# Altium schematic symbol library BOT1_2025.SchLib: 300 symbols (part 2 of 3)
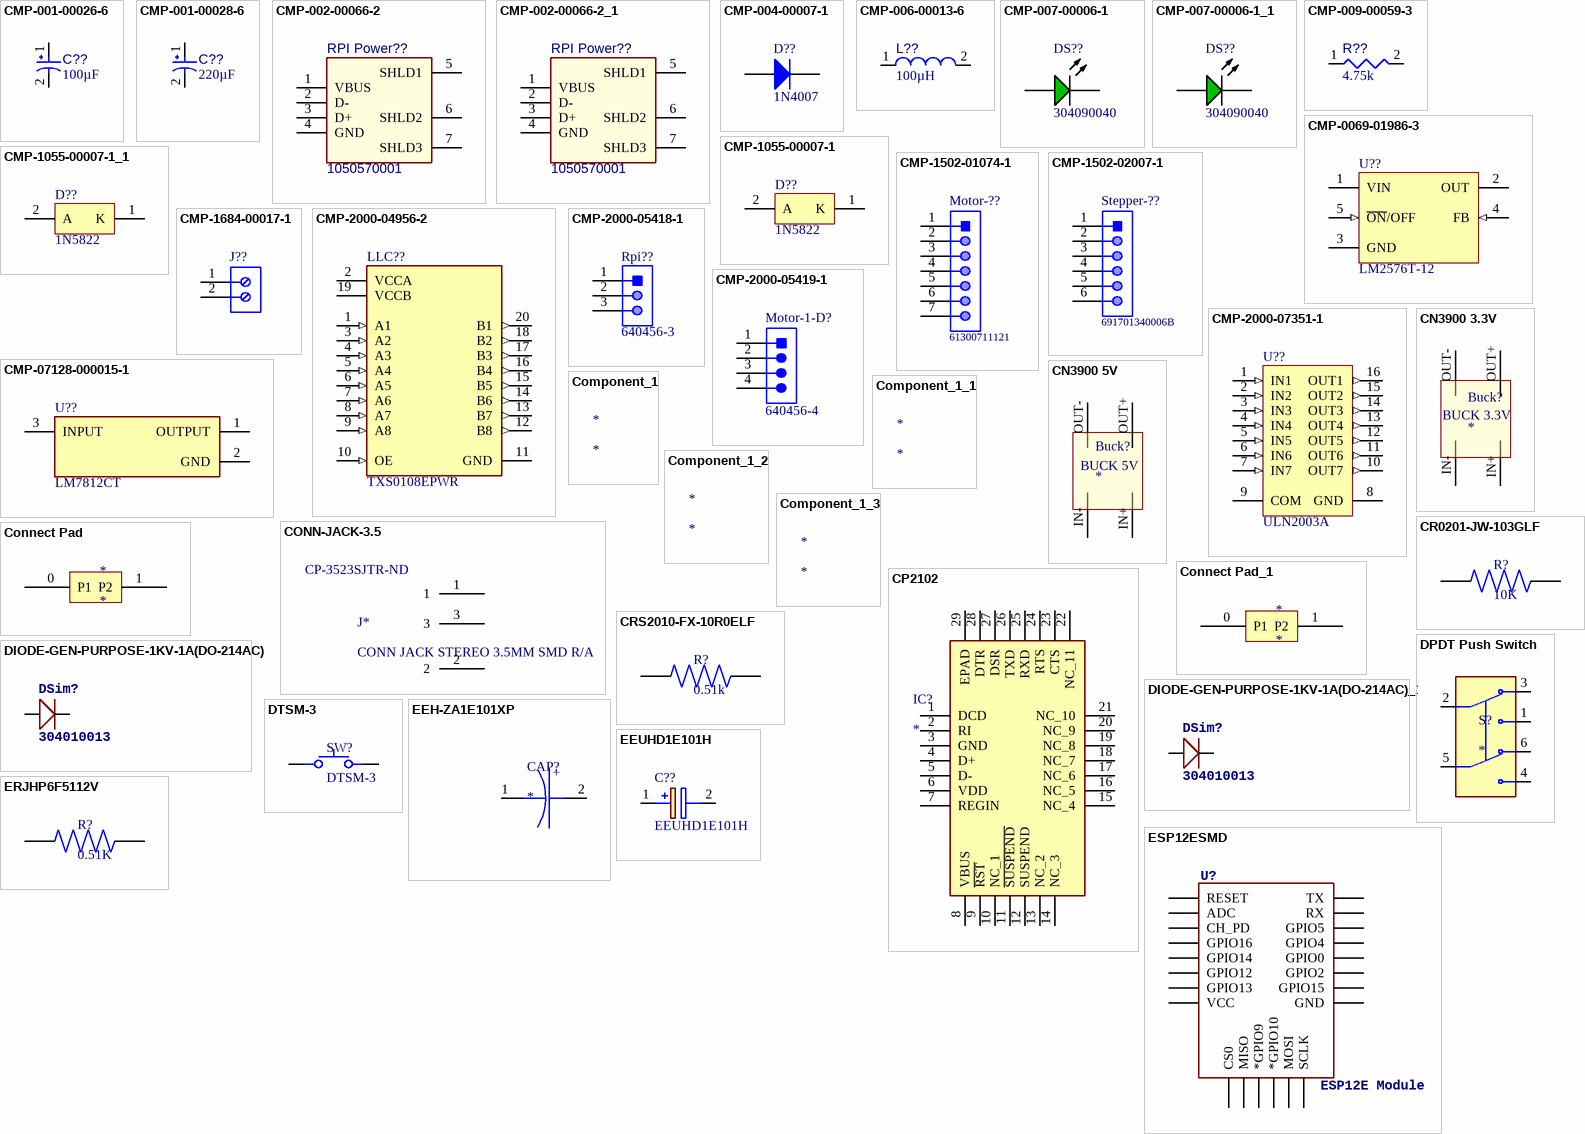
[diagram p9: symbols CMP-001-00026-6 to ESP12ESMD]

## CMP-1055-00007-1_1
designator D??, comment 1N5822
Rectifier, 2-Pin Axial_Lead, Bulk Bag; Manufacturer: On Semiconductor; Manufacturer: ON Semiconductor / Fairchild; IFSM Max (A): 80; Note1: 0; Configuration: Single; PartNumber: 1N5822; ComponentLink2Description: Datasheet; RoHS: FALSE; PackageDescription: 2-Pin, Axial Lead, Diameter 5.05 mm; Mounting Technology: Through Hole; PackageReference: AXIAL_LEAD-2-267-05; ComponentLink1URL: http://www.onsemi.com/; PackageVersion: Rev. G, 06/2000; ComponentLink2URL: http://www.onsemi.cn/pub_link/Collateral/1N5820-D.PDF; ComponentLink3Description: Package Specification; ComponentLink1Description: Manufacturer URL; ComponentLink3URL: http://www.onsemi.com/pub_link/Collateral/267-05.PDF; Packing: Bulk Bag; DatasheetVersion: Rev. 10; Manufacturer Part Number: 1N5822
footprint FAIR-DO-41-2 (THD, 2-Leads, Body 5.2x2.72mm, Pin Spacing 7.8mm)
pins: 1 K, 2 A

## CMP-1502-01074-1
designator Motor-??, comment 61300711121
THT Vertical Pin Header WR-PHD, Pitch 2.54 mm, Single Row, 7 pins; Manufacturer: Wurth Elektronik; Manufacturer: Wurth Electronics; Pin Number: 7; Gender: Male; Working Voltage: 250VAC; Contact Resistance: 20mOhm; Rated Current: 3A; Pitch: 2.54mm; Withstanding Voltage: 500VAC; Row Number: Single; Packaging: Bag; Orientation: Vertical; Manufacturer URL: http://www.we-online.de; Datasheet URL: https://katalog.we-online.de/em/datasheet/6130xx11121.pdf; Part Number: 61300711121; Publisher: WurthElektronik; Operating Temperature: -40to105degC; Mounting Technology: THT; Package Reference: 61300711121; Manufacturer Part Number: 61300711121
footprint 61300711121 (Pin Header, pitch 2.54 mm, THT, Vertical, single row, 7p)
pins: 1, 2, 3, 4, 5, 6, 7

## CMP-1502-02007-1
designator Stepper-??, comment 691701340006B
Serie 7013 B - 3.81mm Horizontal PCB Header THR Type WR-TBL, 6 pin; Manufacturer: Wurth Elektronik; Manufacturer: Wurth Electronics; Pin Number: 6; Gender: Male; Mounting Technology: SMT; Pitch: 3.81mm; Manufacturer URL: http://www.we-online.de; Operating Temperature: -40to105degC; Part Number: 691701340006B; Packaging: TapeandReel; Publisher: WurthElektronik; Datasheet URL: http://katalog.we-online.de/em/datasheet/6917013400xxB.pdf; Package Reference: 691701340006B; Manufacturer Part Number: 691701340006B
footprint 691701340006B (Horizontal PCB Header THR Type, pitch 3.81mm, 06p)
pins: 1, 2, 3, 4, 5, 6

## CMP-1684-00017-1
designator J??
Female Header, Pitch 5 mm, 1 x 2 Position, Height 10 mm, Tail Length 3.5 mm, Rohs, Bulk; Manufacturer: TE Connectivity; Manufacturer Part Number: 282836-2; Wire Gauge: 16-30AWG; Product Training Modules: Wire-to-BoardEurostyleTerminalBlocks; Clamp Material - Plating: Brass-NickelPlated; Voltage: 300V; Mating Orientation: HorizontalwithBoard; Current: 13.5A; Pitch: 0.197"(5.00mm); Screw Thread: M3; 3D Model: 282836-2.pdf; Other Names: 5ULV-02B / A98076; Dynamic Catalog: BuchananSeries; Number of Levels: 1; Torque - Screw: 0.68Nm(6Lb-In); Featured Product: EurostyleTerminalBlockConnectors; Positions Per Level: 2; Wire Termination: Screw-RisingCageClamp; Datasheet URL: http://www.te.com.cn/commerce/DocumentDelivery/DDEController?Action=showdoc&DocId=Catalog+Section%7F1308389_EUROSTYLE_TERMINAL_BLOCKS%7F0607%7Fpdf%7FEnglish%7FENG_CS_1308389_EUROSTYLE_TERMINAL_BLOCKS_0607.pdf%7F282836-2; Color: Green; Family: TerminalBlocks-WiretoBoard; RoHS Information: 282836-2StatementofCompliance; Standard Package: 300; Contact Material - Plating: Brass-TinPlated; Manufacturer URL: http://www.te.com; Housing Material: Polyamide(PA66),Nylon6/6; Features: Interlocking(Side); Package Description: Female Header, Pitch 5 mm, 1 x 2 Position, Height 10 mm, Tail Length 3.5 mm; Mounting Type: ThroughHole; Package Reference: THD; Packaging: Bulk; Series: Buchanan; Category: Connectors,Interconnects; Screw Material - Plating: Brass-NickelPlated
footprint TECO-282836-2_V (Female Header, Pitch 5mm, 1 x 2 Position, Height 10mm)
pins: 1, 2

## CMP-2000-04956-2
designator LLC??, comment TXS0108EPWR
IC TRNSLTR BIDIRECTIONAL 20TSSOP; Manufacturer: Texas Instruments; Number of Inputs: 8; Supply Current: 8uA; Low Level Output Current: 50mA; Min Supply Voltage: 1.2V; Quiescent Current: 3uA; Output Type: Voltage; Propagation Delay: 4.8ns; Max Supply Voltage: 5.5V; Output Current: 620uA; Turn-On Delay Time: 312ns; Logic Function: Translator; Data Rate: 60Mbps; Rise Time: 6.3ns; High Level Output Current: -50mA; Number of Pins: 20; Packaging: Tape and Reel; Max Operating Temperature: 85°C; Height: 1.15mm; Nominal Supply Current: 8uA; Termination: SMD/SMT; Lead Free: Lead Free; Package Quantity: 1; Number of Bits: 8; Weight: 0.002716oz; Contact Plating: Gold; Series: -; Width: 4.4mm; Radiation Hardening: No; Mount: Surface Mount; Length: 6.5mm; Case/Package: TSSOP; REACH SVHC: No SVHC; RoHS Compliant: Yes; Min Operating Temperature: -40°C; Number of Channels: 8; Manufacturer Part Number: TXS0108EPWR
footprint FP-PW0020A-IPC_C
pins: 1 A1 (in), 2 VCCA (power), 3 A2 (in), 4 A3 (in), 5 A4 (in), 6 A5 (in), 7 A6 (in), 8 A7 (in), 9 A8 (in), 10 OE (in), 11 GND (power), 12 B8 (out), 13 B7 (out), 14 B6 (out), 15 B5 (out), 16 B4 (out), 17 B3 (out), 18 B2 (out), 19 VCCB (power), 20 B1 (out)

## CMP-2000-05418-1
designator Rpi??, comment 640456-3
Male Header, Pitch 2.54 mm, 1 x 3 Position, Height 10.03 mm, Tail Length 3.56 mm, -55 to 105 degC; Manufacturer: TE Connectivity; Agency Approvals: CSA,UL; Angle: Straight; Number of Positions: 3; Standards: RoHSCompliant,ELVCompliant,UL94V-0; Current, Rating: 5 / A; Connector Type: MTA-100; Mount Angle: Vertical; Material, Housing: Polyester; Temperature, Operating: -55to+105 / degC; Voltage, Rating: 250 / V; Color, Housing: White; Contact Centerline Spacing: 0.100 / in.; Special Features: Pinstrip; Material, Contact: CopperAlloy; Contact Termination Area Plating: Tin; Primary Type: InterconnectSystem; Pin Spacing: 0.1 / "; Brand/Series: MTA-100Series; Mounting Hole Size: 0.04 / "; Manufacturer URL: http://www.te.com/; Datasheet URL: https://datasheet.ciiva.com/16456/eng-ds-82056-mta-0608-16456886.pdf; Flammability Rating: UL94V-0; Mounting Type: PCMount; Contact Mating Area Plating: Tin; Datasheet Version: Jun-08; Number of Rows: 1; Termination: Solder; Type: PCBPlug; Length, Pin: 0.14 / "; Color: White; Contact Plating: Tin; Contact Shape: Square; Number of Contacts: 3; Size, Post: 0.025 / in.; Length, Terminal Post: 0.14 / in.; Length, Overall: 0.3 / "; Manufacturer Part Number: 640456-3
footprint TECO-640456-3 (Through Hole, 3-Leads, Body 7.62x5.72mm, Pitch 2.54mm)
pins: 1, 2, 3

## CMP-2000-05419-1
designator Motor-1-D?, comment 640456-4
Male Header, Pitch 2.54 mm, 1 x 4 Position, Height 10.03 mm, Tail Length 3.56 mm, RoHS, Bulk; Manufacturer: TE Connectivity; Material, Housing: Polyester; Primary Type: InterconnectSystem; Mount Angle: Vertical; Color, Housing: White; Current, Rating: 5 / A; Agency Approvals: CSA,UL; Contact Termination Area Plating: Tin; Temperature, Operating: -55to+105 / degC; Standards: RoHSCompliant,ELVCompliant,UL94V-0; Number of Positions: 4; Brand/Series: MTA-100Series; Angle: Straight; Pin Spacing: 0.1 / "; Material, Contact: CopperAlloy; Connector Type: MTA-100; Special Features: Pinstrip; Mounting Hole Size: 0.04 / "; Contact Centerline Spacing: 0.100 / in.; Voltage, Rating: 250 / V; Manufacturer URL: http://www.te.com/; Length, Pin: 0.14 / "; Length, Overall: 0.4 / "; Color: White; Flammability Rating: UL94V-0; Mounting Type: PCMount; Termination: Solder; Datasheet URL: https://datasheet.ciiva.com/16286/eng-ds-82056-mta-0608-16286228.pdf; Number of Contacts: 4; Contact Shape: Square; Contact Mating Area Plating: Tin; Length, Terminal Post: 0.14 / in.; Size, Post: 0.025 / in.; Contact Plating: Tin; Type: PCBPlug; Datasheet Version: Dec-14; Number of Rows: 1; Manufacturer Part Number: 640456-4
footprint TECO-640456-4 (Through Hole, 4-Leads, Body 10.16x5.72mm, Pitch 2.54mm)
pins: 1, 2, 3, 4

## CMP-2000-07351-1
designator U??, comment ULN2003A
Seven Darlington Array, 50 V, 0.5 A, -40 to 85 degC, 16-Pin DIP, RoHS, Tube; Manufacturer: STMicroelectronics; Transistor Polarity: NPN; VOUT: 50V; No. of Pins: 16Pins; SVHC: NoSVHC(17-Dec-2015); DC Current Gain hFE: 1000hFE; Output Current: 0.5A; DC Collector Current: 500mA; Transistor Case Style: DIP; Package Reference: DIP-16L; Automotive Qualification Standard: -; Mounting Technology: ThroughHole; Power Dissipation Pd: -; Collector Emitter Voltage V(br)ceo: 50V; Datasheet URL: http://www2.st.com/content/ccc/resource/technical/document/datasheet/f3/6e/c8/64/4d/b3/4e/38/CD00001244.pdf/files/CD00001244.pdf/jcr:content/translations/en.CD00001244.pdf; Manufacturer URL: http://www.st.com/; PartNumber: ULN2003A; MSL: MSL2-1year; Product Range: -; Package Description: 16-Pin DIP, Body 19.7 x 7.1 mm, Pitch 2.54 mm; Operating Temperature Max: 85°C; Datasheet Version: Rev. 8, 06/2012; Manufacturer Part Number: ULN2003A
footprint STM-DIP-16L (DIP, 16-Leads, Body 19.7x7.1mm, Pitch 2.54mm)
pins: 1 IN1 (in), 2 IN2 (in), 3 IN3 (in), 4 IN4 (in), 5 IN5 (in), 6 IN6 (in), 7 IN7 (in), 8 GND (power), 9 COM, 10 OUT7 (out), 11 OUT6 (out), 12 OUT5 (out), 13 OUT4 (out), 14 OUT3 (out), 15 OUT2 (out), 16 OUT1 (out)

## CMP-07128-000015-1
designator U??, comment LM7812CT
IC REG LINEAR 12V 1A TO220-3; Obsolete Part: true; Manufacturer: ON Semiconductor; Manufacturer: ON Semiconductor / Fairchild; Nominal Supply Current: 5.1mA; Output Type: Fixed; Dropout Voltage: 2V; Max Supply Voltage: 35V; Accuracy Percentage: 4%; Standoff Height: 2.7mm; Number Of Outputs: 1; Octopart: https://octopart.com/lm7812ct-on+semiconductor-14383031; Output Current: 1A; ComponentLink2Description: Datasheet; Device Class L1: Integrated Circuits (ICs); Device Class L2: Power Management ICs; Temperature Range Low: -40°C; Category: IC; Package: TO220B03; Device Class L3: Voltage Regulators - Linear; RoHS: TRUE; Digikey Description: IC REG LINEAR 12V 1A TO220-3; Ipc Land Pattern Name: TO-220; Output Voltage: 12V; Temperature: -40°C to +125°C; Automotive: No; Temperature Range High: +125°C; ComponentLink2URL: https://www.mouser.in/datasheet/2/308/LM7812-1125088.pdf; Manufacturer Part Number: LM7812CT; Height: 20.4mm; Lead Free: Yes
footprint FP-TO220B03-MFG
pins: 1 OUTPUT (power), 2 GND (power), 3 INPUT (power)

## CN3900 3.3V
designator Buck?
footprint CN3903 Dubai buck 3.3V
pins: IN+ (power), IN- (power), OUT+ (power), OUT- (power)
text: BUCK 3.3V

## CN3900 5V
designator Buck?
footprint CN3903 Dubai buck 5V
pins: IN+ (power), IN- (power), OUT+ (power), OUT- (power)
text: BUCK 5V

## Component_1
designator *

## Component_1_1
designator *

## Component_1_2
designator *

## Component_1_3
designator *

## CONN-JACK-3.5
designator J*, comment CONN JACK STEREO 3.5MM SMD R/A  Supplier Part Number 1: CP-3523SJTR-ND
3.50mm (0.141", 1/8", Mini Plug) - Headphone Phone Jack Stereo Connector Solder - SJ-3523-SMT; ComponentLink1Description: Digikey; ComponentLink1URL: https://www.digikey.com/product-detail/en/cui-inc/SJ-3523-SMT-TR/CP-3523SJTR-ND/281297; Supplier 1: Digi-Key
footprint SJ-3523-SMT-TR (3.50mm (0.141", 1/8", Mini Plug) - Headphone Phone Jack Stereo Connector Solder CP-3523SJTR-ND)
pins: 1, 2, 3

## Connect Pad
designator *
footprint Connect Pad (Connect Pad 2pin)
pins: 0 P1, 1 P2

## Connect Pad_1
designator *
footprint Connect Pad (Connect Pad 2pin)
pins: 0 P1, 1 P2

## CP2102
designator IC?
Integrated Circuit; Manufacturer_Name: Silicon Labs; Manufacturer_Part_Number: CP2102; Datasheet Link: https://componentsearchengine.com/Datasheets/1/CP2102.pdf; Height: 1mm; Mouser Part Number: 634-CP2102; Mouser Price/Stock: https://www.mouser.co.uk/ProductDetail/Silicon-Labs/CP2102?qs=ucY0lxHzU7615lOm95XT0w%3D%3D
footprint QFN50P500X500X100-29N-D
pins: 1 DCD, 2 RI, 3 GND, 4 D+, 5 D-, 6 VDD, 7 REGIN, 8 VBUS, 9 ~{RST}, 10 NC_1, 11 ~{SUSPEND}, 12 SUSPEND, 13 NC_2, 14 NC_3, 15 NC_4, 16 NC_5, 17 NC_6, 18 NC_7, 19 NC_8, 20 NC_9, 21 NC_10, 22 NC_11, 23 CTS, 24 RTS, 25 RXD, 26 TXD, 27 DSR, 28 DTR, 29 EPAD

## CR0201-JW-103GLF
designator R?, comment 10K
10 kOhms Â±5% 0.05W, 1/20W Chip Resistor 0201 (0603 Metric) Thick Film; MF: Bourns; MP: CR0201-JW-103GLF; Purchase-URL: https://pricing.snapeda.com/search/part/CR0201-JW-103GLF/?ref=eda; Value: *; SnapEDA_Link: https://www.snapeda.com/parts/CR0201-JW-103GLF/Bourns/view-part/4001839/?ref=snap; Package: 0603 Rohm Semiconductor; Check_prices: https://www.snapeda.com/parts/CR0201-JW-103GLF/Bourns/view-part/4001839/?ref=eda; Availability: Warning; Price: None
footprint RESC0603X26N (Res 0201 10k 5% 50mW TC200,TR07,Tape & Reel - 7 reel)
pins: 1, 2

## CRS2010-FX-10R0ELF
designator R?, comment 0.51k
5025 Package; MP: CRS2010-FX-10R0ELF; Package: None; Price: None; Value: *; Availability: Unavailable
footprint RESC5025X65N (Resistor smd 5025)
pins: 1, 2

## DIODE-GEN-PURPOSE-1KV-1A(DO-214AC)
designator DSim?, comment 304010013
MPN: 1N4007
footprint DO-214AC
pins: 1 +, 2 -

## DIODE-GEN-PURPOSE-1KV-1A(DO-214AC)_1
designator DSim?, comment 304010013
MPN: 1N4007
footprint DO-214AC
pins: 1 +, 2 -

## DPDT Push Switch
designator S?
MP: MPB04-2C54-S-CAP-WT-D; Value: *; Package: None; Availability: Unavailable; Price: None
footprint DPDT Push switch
pins: 1, 2, 3, 4, 5, 6

## DTSM-3
designator SW?
Tactile Switch SMD SPST; Manufacturer: Diptronics; Manufacturer Part Number: DTSM-3
footprint DTSM-3
pins: 1, 2

## EEH-ZA1E101XP
designator CAP?
Supplier 1: Mouser; Supplier Part Number 1: 667-EEH-ZA1E101XP
footprint EEH-ZA1E101XP
pins: 1, 2 +

## EEUHD1E101H
designator C??
Capacitor Polarised; Manufacturer_Name: Panasonic; Datasheet Link: http://industrial.panasonic.com/cdbs/www-data/pdf/RDF0000/ABA0000C1035.pdf; Height: 12.7mm; Manufacturer_Part_Number: EEUHD1E101H
footprint CAPPRD250W55D630H1270
pins: 1 +, 2 -

## ERJHP6F5112V
designator R?, comment 0.51K
0805 0.51k ohm; MP: ERJHP6F5112V; Availability: Unavailable; Price: None; Package: None; Value: *
footprint RES_ERJHP6F5112V
pins: 1, 2

## ESP12ESMD
designator U?, comment ESP12E Module
footprint ESP12E-SMD
pins: ADC, CH_PD, CS0, GND, GPIO0, GPIO2, GPIO4, GPIO5, GPIO9 *GPIO9, GPIO10 *GPIO10, GPIO12, GPIO13, GPIO14, GPIO15, GPIO16, MISO, MOSI, RESET, RXD0 RX, SCLK, TXD0 TX, VCC

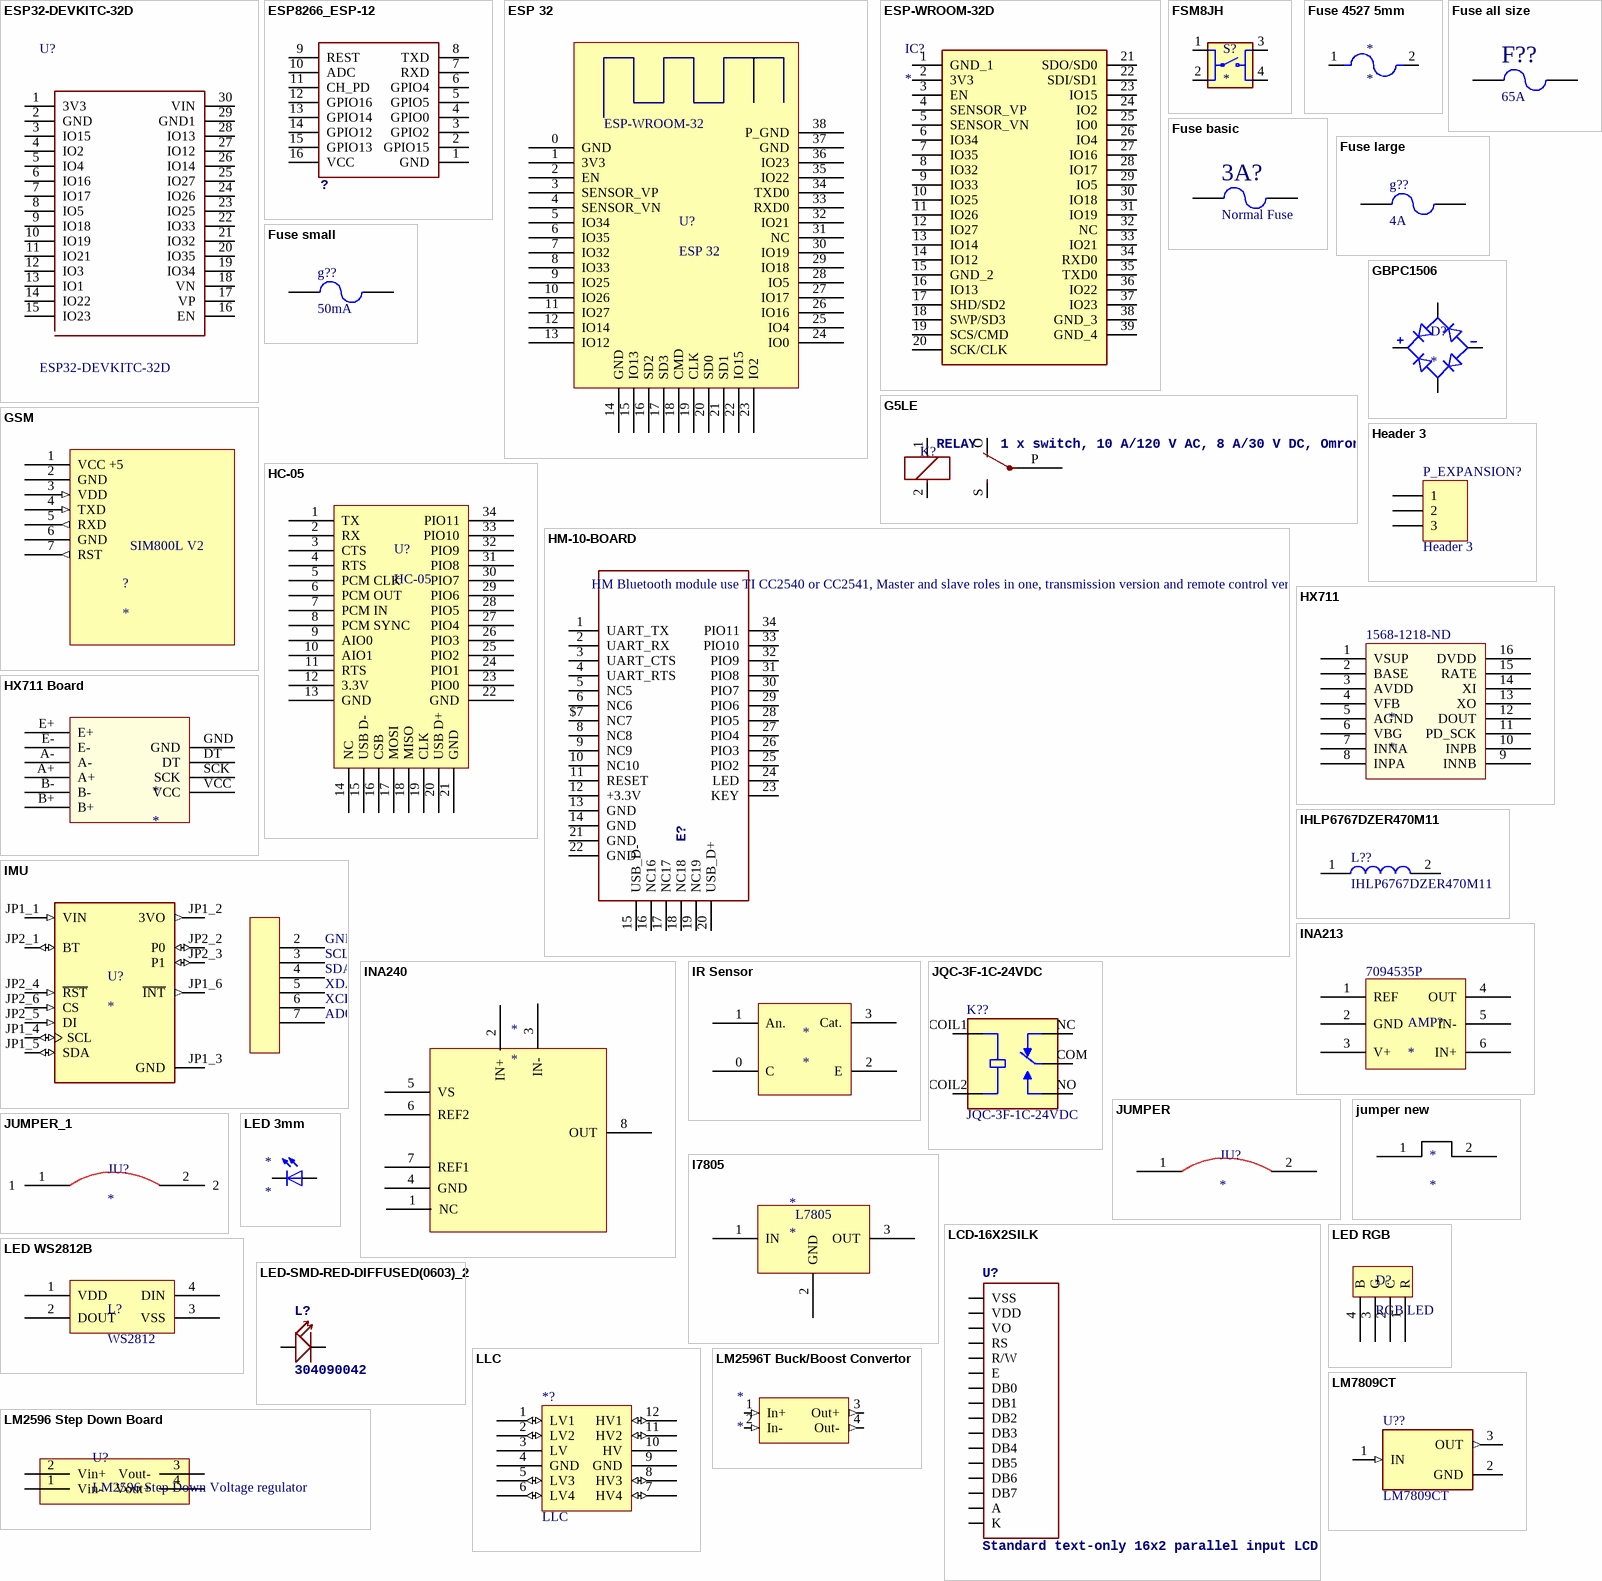
[diagram p4: symbols ESP32-DEVKITC-32D to LM7809CT]

## ESP32-DEVKITC-32D
designator U?
Eval Board For Esp-Wroom-32; MF: Espressif Systems; Availability: Unavailable; Package: None; SnapEDA_Link: https://www.snapeda.com/parts/ESP32-DEVKITC-32D/Espressif%20Systems/view-part/?ref=snap; MP: ESP32-DEVKITC-32D; Price: None; Value: *
footprint MODULE_ESP32-DEVKITV1
pins: 1 3V3, 2 GND, 3 IO15, 4 IO2, 5 IO4, 6 IO16, 7 IO17, 8 IO5, 9 IO18, 10 IO19, 11 IO21, 12 IO3, 13 IO1, 14 IO22, 15 IO23, 16 EN, 17 VP, 18 VN, 19 IO34, 20 IO35, 21 IO32, 22 IO33, 23 IO25, 24 IO26, 25 IO27, 26 IO14, 27 IO12, 28 IO13, 29 GND1, 30 VIN

## ESP8266_ESP-12
designator ?
footprint ESP8266-ESP12
pins: 1 GND, 2 GPIO15, 3 GPIO2, 4 GPIO0, 5 GPIO5, 6 GPIO4, 7 RXD, 8 TXD, 9 REST, 10 ADC, 11 CH_PD, 12 GPIO16, 13 GPIO14, 14 GPIO12, 15 GPIO13, 16 VCC

## ESP 32
designator U?
footprint ESP 32
pins: 0 GND, 1 3V3, 2 EN, 3 SENSOR_VP, 4 SENSOR_VN, 5 IO34, 6 IO35, 7 IO32, 8 IO33, 9 IO25, 10 IO26, 11 IO27, 12 IO14, 13 IO12, 14 GND, 15 IO13, 16 SD2, 17 SD3, 18 CMD, 19 CLK, 20 SD0, 21 SD1, 22 IO15, 23 IO2, 24 IO0, 25 IO4, 26 IO16, 27 IO17, 28 IO5, 29 IO18, 30 IO19, 31 NC, 32 IO21, 33 RXD0, 34 TXD0, 35 IO22, 36 IO23, 37 GND, 38 P_GND
text: ESP-WROOM-32

## ESP-WROOM-32D
designator IC?
Integrated Circuit; Manufacturer_Name: Espressif Systems; Manufacturer_Part_Number: ESP-WROOM-32D; Datasheet Link: https://componentsearchengine.com/Datasheets/1/ESP-WROOM-32D.pdf; Height: 3.2mm; Mouser Part Number: 356-ESP-WROOM-32D; Mouser Price/Stock: https://www.mouser.co.uk/ProductDetail/Espressif-Systems/ESP-WROOM-32D?qs=MLItCLRbWsyWVKgdQMcFuQ%3D%3D
footprint ESPWROOM32D
pins: 1 GND_1, 2 3V3, 3 EN, 4 SENSOR_VP, 5 SENSOR_VN, 6 IO34, 7 IO35, 8 IO32, 9 IO33, 10 IO25, 11 IO26, 12 IO27, 13 IO14, 14 IO12, 15 GND_2, 16 IO13, 17 SHD/SD2, 18 SWP/SD3, 19 SCS/CMD, 20 SCK/CLK, 21 SDO/SD0, 22 SDI/SD1, 23 IO15, 24 IO2, 25 IO0, 26 IO4, 27 IO16, 28 IO17, 29 IO5, 30 IO18, 31 IO19, 32 NC, 33 IO21, 34 RXD0, 35 TXD0, 36 IO22, 37 IO23, 38 GND_3, 39 GND_4

## FSM8JH
designator S?
Tactile Switch SPST-NO Top Actuated Through Hole; MP: FSM8JH; MF: TE Connectivity; Check_prices: https://www.snapeda.com/parts/FSM8JH/TE+Connectivity+ALCOSWITCH+Switches/view-part/?ref=eda; Value: *; Availability: In Stock; Price: None; Package: None; SnapEDA_Link: https://www.snapeda.com/parts/FSM8JH/TE+Connectivity+ALCOSWITCH+Switches/view-part/?ref=snap
footprint SW_FSM8JH
pins: 1, 2, 3, 4

## Fuse 4527 5mm
designator *
footprint Fuse 4527 5mm
pins: 1, 2

## Fuse all size
designator F??, comment 65A
footprint FUSE(ALL SIZE)
pins: 1, 2

## Fuse basic
designator 3A?, comment Normal Fuse
footprint Fuse (Normal Fuse)
pins: 1, 2

## Fuse large
designator g??, comment 4A
footprint Fuse - duplicate (Normal Fuse)
pins: 1, 2

## Fuse small
designator g??, comment 50mA
footprint FUSE SMALL-1
pins: 1, 2

## G5LE
designator K?, comment RELAY   1 x switch, 10 A/120 V AC, 8 A/30 V DC, Omron
footprint G5LE
pins: 1, 2, O, P Common, S

## GBPC1506
designator D?
Bridge Rectifier Single Phase Standard 600 V QC Terminal GBPC; MP: GBPC1506; MF: ON Semiconductor; SnapEDA_Link: https://www.snapeda.com/parts/GBPC1506/Onsemi/view-part/?ref=snap; Package: GBPC-4 ON Semiconductor; Purchase-URL: https://pricing.snapeda.com/search/part/GBPC1506/?ref=eda; Check_prices: https://www.snapeda.com/parts/GBPC1506/Onsemi/view-part/?ref=eda; Price: None; Value: *; Availability: In Stock
footprint DIOB_GBPC1506
pins: AC1, AC2, N, P

## GSM
designator ?
footprint GSM
pins: 1 VCC +5 (hiz), 2 GND (power), 3 VDD (in), 4 TXD (in), 5 RXD (out), 6 GND (hiz), 7 RST (out)
text: SIM800L V2

## HC-05
designator U?
footprint HC-05 (Bluetooth module)
pins: 1 TX, 2 RX, 3 CTS, 4 RTS, 5 PCM CLK, 6 PCM OUT, 7 PCM IN, 8 PCM SYNC, 9 AIO0, 10 AIO1, 11 RTS, 12 3.3V, 13 GND, 14 NC, 15 USB D-, 16 CSB, 17 MOSI, 18 MISO, 19 CLK, 20 USB D+, 21 GND, 22 GND, 23 PIO0, 24 PIO1, 25 PIO2, 26 PIO3, 27 PIO4, 28 PIO5, 29 PIO6, 30 PIO7, 31 PIO8, 32 PIO9, 33 PIO10, 34 PIO11

## Header 3
designator P_EXPANSION?
Header, 3-Pin; LatestRevisionDate: 17-Jul-2002; LatestRevisionNote: Re-released for DXP Platform.; Publisher: Altium Limited
footprint HDR1X3 (Connector; Header; 3 Position)
signal-integrity model Connector
pins: 1, 2, 3

## HM-10-BOARD
designator E?, comment HM Bluetooth module use TI CC2540 or CC2541, Master and slave roles in one, transmission version and remote control version and PIO state acquisition functions in one, Support the AT command modify module parameters, Convenient and flexible.
footprint 26.9X13X2.2_BOARD
pins: 1 UART_TX, 2 UART_RX, 3 UART_CTS, 4 UART_RTS, 5 NC5, 6 NC6, 8 NC8, 9 NC9, 10 NC10, 11 RESET, 12 +3.3V, 13 GND, 14 GND, 15 USB_D-, 16 NC16, 17 NC17, 18 NC18, 19 NC19, 20 USB_D+, 21 GND, 22 GND, 23 KEY, 24 LED, 25 PIO2, 26 PIO3, 27 PIO4, 28 PIO5, 29 PIO6, 30 PIO7, 31 PIO8, 32 PIO9, 33 PIO10, 34 PIO11, $7 NC7

## HX711
designator *  Supplier Part Number 1: 1568-1218-ND
Supplier 1: Digi-Key
footprint SOP16L
pins: 1 VSUP, 2 BASE, 3 AVDD, 4 VFB, 5 AGND, 6 VBG, 7 INNA, 8 INPA, 9 INNB, 10 INPB, 11 PD_SCK, 12 DOUT, 13 XO, 14 XI, 15 RATE, 16 DVDD

## HX711 Board
designator *
footprint HX711 Board
pins: A+, A-, B+, B-, DT, E+, E-, GND, SCK, VCC

## IHLP6767DZER470M11
designator L??
Inductor; Manufacturer_Name: Vishay; Datasheet Link: https://componentsearchengine.com/Datasheets/2/IHLP6767DZER470M11.pdf; Height: 4mm; Manufacturer_Part_Number: IHLP6767DZER470M11; Mouser Part Number: 70-IHLP6767DZER470M1; Mouser Price/Stock: https://www.mouser.co.uk/ProductDetail/Vishay-Dale/IHLP6767DZER470M11?qs=e2ByEPnK0IgJ3lh9QXlbaQ%3D%3D; Arrow Part Number: IHLP6767DZER470M11; Arrow Price/Stock: https://www.arrow.com/en/products/ihlp6767dzer470m11/vishay
footprint 1468362
pins: 1, 2

## IMU
designator U?
Adafruit 9-DOF Orientation IMU Fusion Breakout - BNO085 (BNO080) - STEMMA QT / Qwiic; MP: 4754; SnapEDA_Link: https://www.snapeda.com/parts/4754/Adafruit+Industries/view-part/?ref=snap; Price: None; Purchase-URL: https://pricing.snapeda.com/search/part/4754/?ref=eda; MF: Adafruit; Package: None; Availability: In Stock; Check_prices: https://www.snapeda.com/parts/4754/Adafruit+Industries/view-part/?ref=eda; Value: *
footprint IMU
pins: 2, 3, 4, 5, 6, 7, JP1_1 VIN (in), JP1_2 3VO (out), JP1_3 GND (power), JP1_4 SCL (io), JP1_5 SDA (io), JP1_6 ~{INT} (out), JP2_1 BT (io), JP2_2 P0 (io), JP2_3 P1 (io), JP2_4 ~{RST} (in), JP2_5 DI (in), JP2_6 CS (in)
text: XDA; XCL; AD0

## INA213
designator AMP?  Supplier Part Number 1: 7094535P
INA213 current sense amp; Supplier 1: RSComponents
footprint INA213
pins: 1 REF, 2 GND, 3 V+, 4 OUT, 5 IN-, 6 IN+

## INA240
designator *
Supplier 1: Mouser; Supplier Part Number 1: 595-INA240A2PWR
footprint INA240
pins: 1 NC, 2 IN+, 3 IN-, 4 GND, 5 VS, 6 REF2, 7 REF1, 8 OUT

## IR Sensor
designator *
footprint IR PRO
footprint Model Name (Model Description)
pins: 0 C, 1 An., 2 E, 3 Cat.

## JQC-3F-1C-24VDC
designator K??
Miniature PCB Relay 24VDC, 10A 250VAC, 15A 125VAC, 10A 250VAC; MF: YUEQING HENGWEI ELECTRONICS CO.,LTD.; Price: None; MP: JQC-3F-1C-24VDC; Availability: Unavailable; SnapEDA_Link: https://www.snapeda.com/parts/JQC-3F-1C-24VDC/YUEQING%20HENGWEI%20ELECTRONICS%20CO.,LTD./view-part/4374405/?ref=snap; Value: *; Package: Package; Check_prices: https://www.snapeda.com/parts/JQC-3F-1C-24VDC/YUEQING%20HENGWEI%20ELECTRONICS%20CO.,LTD./view-part/4374405/?ref=eda
footprint RELAY_JQC-3F-1C-24VDC
pins: COIL1, COIL2, COM, NC, NO

## JUMPER
designator JU?
footprint JUMPER 200mil (JUMPER for one layer PCB)
pins: 1, 2

## jumper new
designator *
footprint Jumper new (JUMPER for one layer PCB)
pins: 1, 2

## JUMPER_1
designator JU?
footprint JUMPER 200mil (JUMPER for one layer PCB)
footprint JUMPER 400mil (JUMPER for one layer PCB)
footprint JUMPER 600mil (JUMPER for one layer PCB)
pins: 1, 2

## l7805
designator *
footprint L7805 (l7805)
pins: 1 IN, 2 GND, 3 OUT
text: L7805

## LCD-16X2SILK
designator U?, comment Standard text-only 16x2 parallel input LCD
footprint LCD-16X2
pins: 1 VSS (power), 2 VDD (power), 3 VO, 4 RS, 5 R/W, 6 E, 7 DB0, 8 DB1, 9 DB2, 10 DB3, 11 DB4, 12 DB5, 13 DB6, 14 DB7, 15 A (power), 16 K (power)

## LED 3mm
designator *
footprint LED 3mm
pins: A, K C

## LED RGB
designator D?, comment RGB LED
footprint LED RGB (5mm RGB LED)
pins: 1 R, 2 C, 3 G, 4 B

## LED WS2812B
designator L?, comment WS2812
RGB LED
footprint LED WS2812B (Intelligent control LED  integrated light source)
pins: 1 VDD, 2 DOUT, 3 VSS, 4 DIN

## LED-SMD-RED-DIFFUSED(0603)_2
designator L?, comment 304090042
MPN: 19-217-R6C-AL1M2VY-3T
footprint LED-0603
pins: +, -

## LLC
designator *?
footprint LLC
pins: 1 LV1 (io), 2 LV2 (io), 3 LV (power), 4 GND (power), 5 LV3 (io), 6 LV4 (io), 7 HV4 (io), 8 HV3 (io), 9 GND (power), 10 HV (power), 11 HV2 (io), 12 HV1 (io)

## LM2596 Step Down Board
designator U?, comment LM2596 Step Down Voltage regulator
footprint LM2596 DC-DC
pins: 1 Vin-, 2 Vin+, 3 Vout-, 4 Vout+

## LM2596T Buck/Boost Convertor
designator *
footprint LM2596 MODULE
pins: 1 In+ (in), 2 In- (in), 3 Out+ (out), 4 Out- (out)

## LM7809CT
designator U??
Linear Voltage Regulator IC 1 Output 1A TO-220-3; MF: Fujitsu; MP: LM7809C; Price: None; SnapEDA_Link: https://www.snapeda.com/parts/LM7809C/Fujitsu/view-part/1233224/?ref=snap; Package: TO-220-3 Fujitsu; Value: *; Availability: Unavailable
footprint TO254P470X1016X1879-3P
pins: 1 IN (in), 2 GND (power), 3 OUT (out)

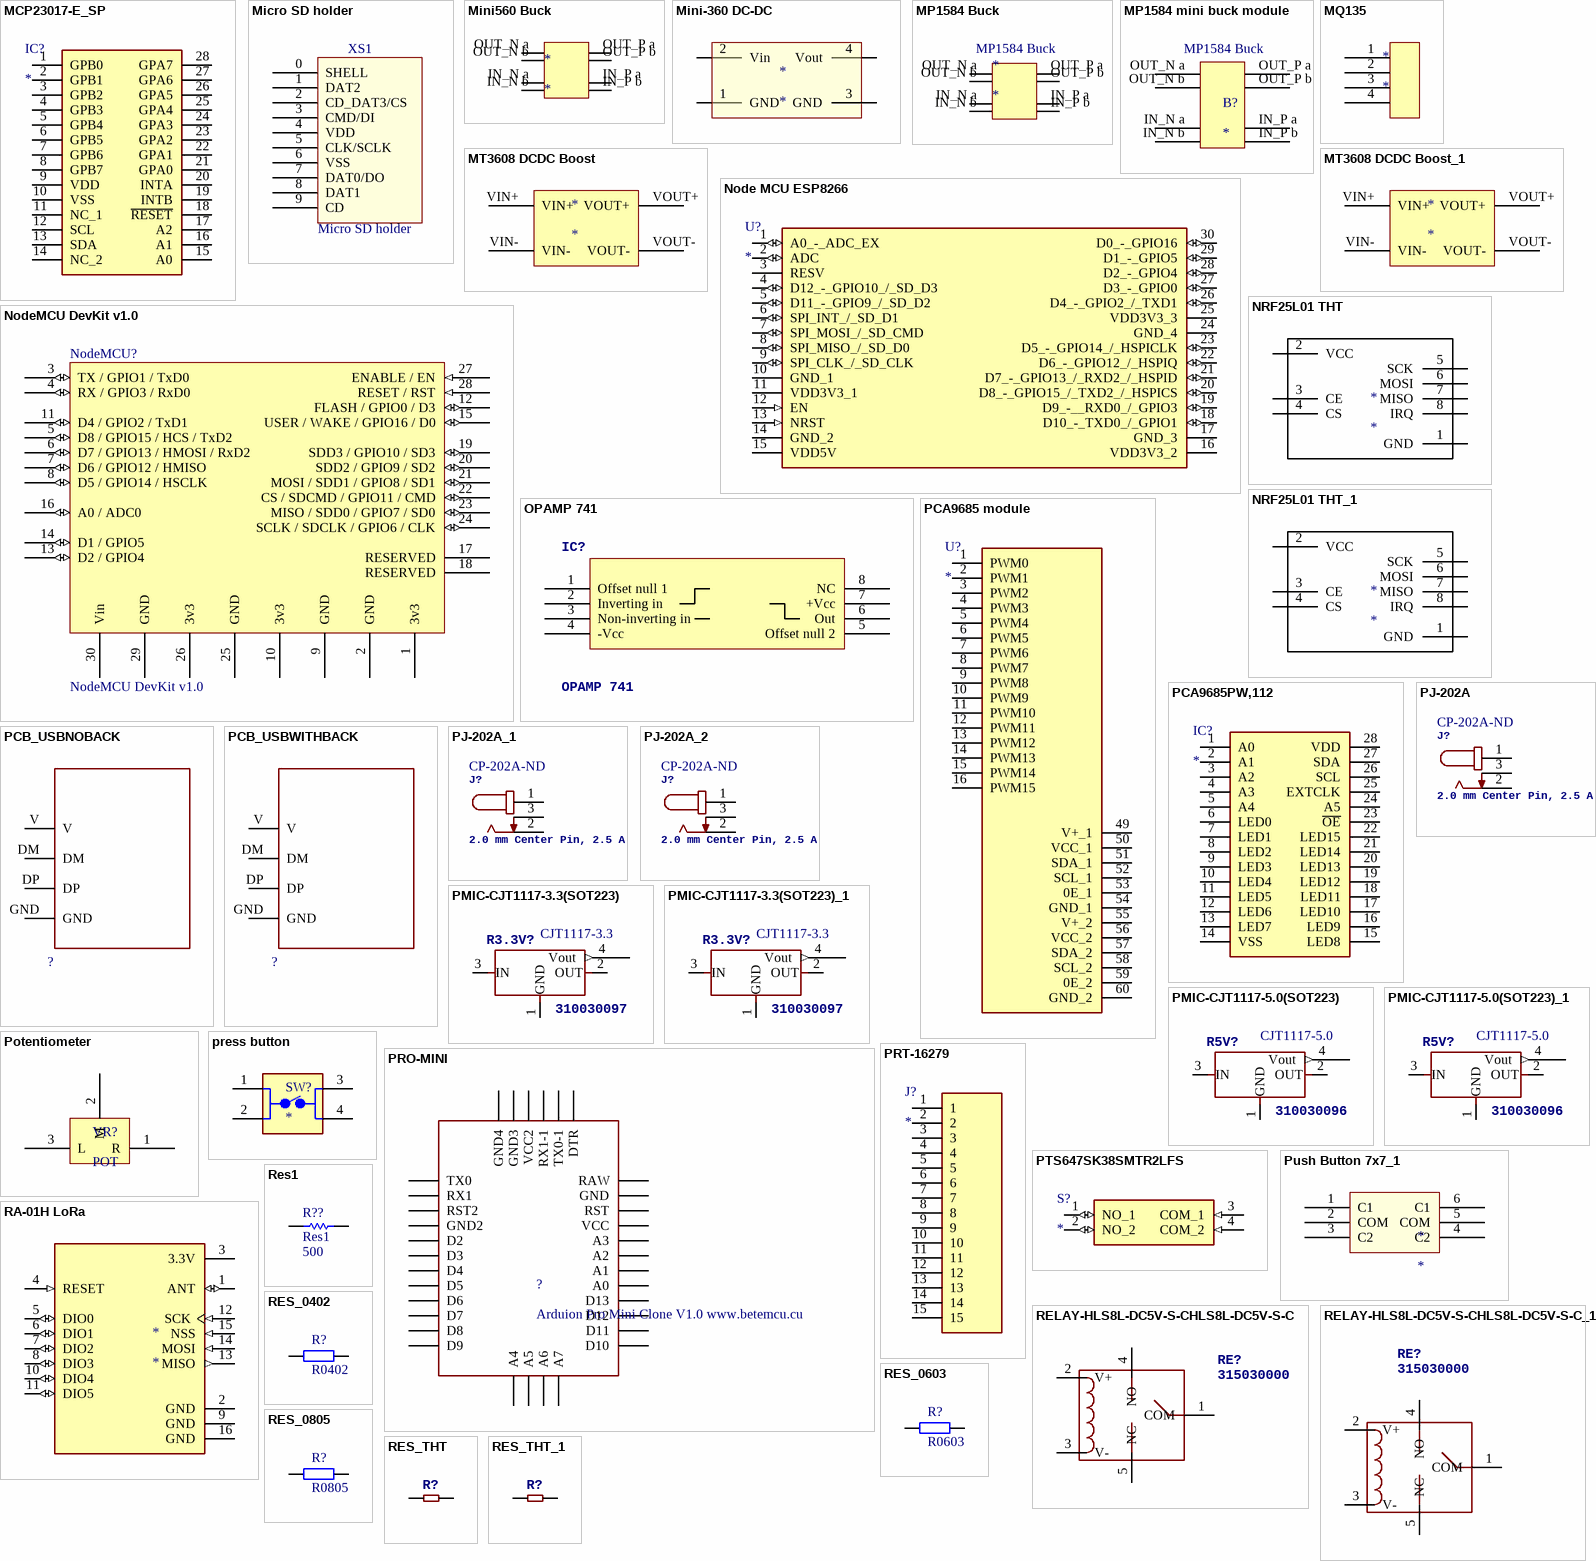
[diagram p5: symbols MCP23017-E_SP to RES_THT_1]

## MCP23017-E_SP
designator IC?
Integrated Circuit; Manufacturer_Name: Microchip; Manufacturer_Part_Number: MCP23017-E/SP; Datasheet Link: https://datasheet.datasheetarchive.com/originals/distributors/SFDatasheet-4/sf-00090057.pdf; Height: 5.08mm; Mouser Part Number: 579-MCP23017-E/SP; Mouser Price/Stock: https://www.mouser.co.uk/ProductDetail/Microchip-Technology-Atmel/MCP23017-E-SP?qs=usxtMOJb1RyESXZDw7ia5A%3D%3D; Arrow Part Number: MCP23017-E/SP; Arrow Price/Stock: https://www.arrow.com/en/products/mcp23017-esp/microchip-technology?region=nac
footprint DIP794W56P254L3486H508Q28N
pins: 1 GPB0, 2 GPB1, 3 GPB2, 4 GPB3, 5 GPB4, 6 GPB5, 7 GPB6, 8 GPB7, 9 VDD, 10 VSS, 11 NC_1, 12 SCL, 13 SDA, 14 NC_2, 15 A0, 16 A1, 17 A2, 18 ~{RESET}, 19 INTB, 20 INTA, 21 GPA0, 22 GPA1, 23 GPA2, 24 GPA3, 25 GPA4, 26 GPA5, 27 GPA6, 28 GPA7

## Micro SD holder
designator XS1
footprint 112C-TBAR-R02
pins: 0 SHELL, 1 DAT2, 2 CD_DAT3/CS, 3 CMD/DI, 4 VDD, 5 CLK/SCLK, 6 VSS, 7 DAT0/DO, 8 DAT1, 9 CD

## Mini560 Buck
designator *
footprint Mini560
pins: IN_N a, IN_N b, IN_P a, IN_P b, OUT_N a, OUT_N b, OUT_P a OUT_P b, OUT_P b

## Mini-360 DC-DC
designator *
footprint Mini-360 (DC-DC Power source)
pins: 1 GND (power), 2 Vin (power), 3 GND (power), 4 Vout (power)

## MP1584 Buck
designator *
footprint MP1584 Buck
pins: IN_N a, IN_N b, IN_P a, IN_P b, OUT_N a, OUT_N b, OUT_P a OUT_P b, OUT_P b

## MP1584 mini buck module
designator B?
footprint mp1584 mini buck
pins: IN_N a, IN_N b, IN_P a, IN_P b, OUT_N a, OUT_N b, OUT_P a OUT_P b, OUT_P b
text: MP1584 Buck

## MQ135
designator *
footprint MQ135
pins: 1, 2, 3, 4

## MT3608 DCDC Boost
designator *
footprint MT3608 (Step Up board)
pins: VIN+, VIN-, VOUT+, VOUT-

## MT3608 DCDC Boost_1
designator *
footprint MT3608 (Step Up board)
pins: VIN+, VIN-, VOUT+, VOUT-

## Node MCU ESP8266
designator U?
Undefined or Miscellaneous; Manufacturer_Name: Seeed Studio; Manufacturer_Part_Number: 113990105; Datasheet Link: https://www.seeedstudio.com/NodeMCU-v2-Lua-based-ESP8266-development-kit.html; Height: 7.35mm; Mouser Part Number: 713-113990105; Mouser Price/Stock: https://www.mouser.co.uk/ProductDetail/Seeed-Studio/113990105?qs=SElPoaY2y5KMx8k1roAIKw%3D%3D; Arrow Part Number: 113990105; Arrow Price/Stock: https://www.arrow.com/en/products/113990105/seeed-technology-limited?region=nac
footprint 113990105
pins: 1 A0_-_ADC_EX (io), 2 ADC (io), 3 RESV, 4 D12_-_GPIO10_/_SD_D3 (io), 5 D11_-_GPIO9_/_SD_D2 (io), 6 SPI_INT_/_SD_D1 (io), 7 SPI_MOSI_/_SD_CMD (io), 8 SPI_MISO_/_SD_D0 (io), 9 SPI_CLK_/_SD_CLK (io), 10 GND_1 (power), 11 VDD3V3_1 (power), 12 EN (in), 13 NRST (in), 14 GND_2 (power), 15 VDD5V (power), 16 VDD3V3_2 (power), 17 GND_3 (power), 18 D10_-_TXD0_/_GPIO1 (io), 19 D9_-__RXD0_/_GPIO3 (io), 20 D8_-_GPIO15_/_TXD2_/_HSPICS (io), 21 D7_-_GPIO13_/_RXD2_/_HSPID (io), 22 D6_-_GPIO12_/_HSPIQ (io), 23 D5_-_GPIO14_/_HSPICLK (io), 24 GND_4 (power), 25 VDD3V3_3 (power), 26 D4_-_GPIO2_/_TXD1 (io), 27 D3_-_GPIO0 (io), 28 D2_-_GPIO4 (io), 29 D1_-_GPIO5 (io), 30 D0_-_GPIO16 (io)

## NodeMCU DevKit v1.0
designator NodeMCU?
footprint NODEMCU
pins: 1 3v3 (power), 2 GND (power), 3 TX / GPIO1 / TxD0 (io), 4 RX / GPIO3 / RxD0 (io), 5 D8 / GPIO15 / HCS / TxD2 (io), 6 D7 / GPIO13 / HMOSI / RxD2 (io), 7 D6 / GPIO12 / HMISO (io), 8 D5 / GPIO14 / HSCLK (io), 9 GND (power), 10 3v3 (power), 11 D4 / GPIO2 / TxD1 (io), 12 FLASH / GPIO0 / D3 (io), 13 D2 / GPIO4 (io), 14 D1 / GPIO5 (io), 15 USER / WAKE / GPIO16 / D0 (io), 16 A0 / ADC0 (io), 17 RESERVED, 18 RESERVED, 19 SDD3 / GPIO10 / SD3 (io), 20 SDD2 / GPIO9 / SD2 (io), 21 MOSI / SDD1 / GPIO8 / SD1 (io), 22 CS / SDCMD / GPIO11 / CMD (io), 23 MISO / SDD0 / GPIO7 / SD0 (io), 24 SCLK / SDCLK / GPIO6 / CLK (io), 25 GND (power), 26 3v3 (power), 27 ENABLE / EN (in), 28 RESET / RST (in), 29 GND, 30 Vin

## NRF25L01 THT
designator *
footprint NRF25L01 THT
pins: 1 GND (power), 2 VCC (power), 3 CE, 4 CS, 5 SCK, 6 MOSI, 7 MISO, 8 IRQ

## NRF25L01 THT_1
designator *
footprint NRF25L01 THT
pins: 1 GND (power), 2 VCC (power), 3 CE, 4 CS, 5 SCK, 6 MOSI, 7 MISO, 8 IRQ

## OPAMP 741
designator IC?
footprint DIL08-ROUND
footprint DIL08-ROUND
pins: 1 Offset null 1, 2 Inverting in, 3 Non-inverting in, 4 -Vcc (power), 5 Offset null 2, 6 Out, 7 +Vcc (power), 8 NC

## PCA9685 module
designator U?
Undefined or Miscellaneous; Manufacturer_Name: Adafruit; Manufacturer_Part_Number: 815; Datasheet Link: https://cdn-shop.adafruit.com/datasheets/PCA9685.pdf; Mouser Part Number: 485-815; Mouser Price/Stock: https://www.mouser.co.uk/ProductDetail/Adafruit/815?qs=GURawfaeGuCGKbWyy9179Q%3D%3D; Arrow Part Number: 815; Arrow Price/Stock: https://www.arrow.com/en/products/815/adafruit-industries?region=nac
footprint PCA9685 module
pins: 1 PWM0, 2 PWM1, 3 PWM2, 4 PWM3, 5 PWM4, 6 PWM5, 7 PWM6, 8 PWM7, 9 PWM8, 10 PWM9, 11 PWM10, 12 PWM11, 13 PWM12, 14 PWM13, 15 PWM14, 16 PWM15, 49 V+_1, 50 VCC_1, 51 SDA_1, 52 SCL_1, 53 0E_1, 54 GND_1, 55 V+_2, 56 VCC_2, 57 SDA_2, 58 SCL_2, 59 0E_2, 60 GND_2

## PCA9685PW,112
designator IC?
Integrated Circuit; Manufacturer_Name: NXP; Manufacturer_Part_Number: PCA9685PW,112; Datasheet Link: http://www.nxp.com/docs/en/data-sheet/PCA9685.pdf; Height: 1.1mm; Mouser Part Number: 771-PCA9685PW,112; Mouser Price/Stock: https://www.mouser.co.uk/ProductDetail/NXP-Semiconductors/PCA9685PW112?qs=6YAT8rHPFU9wZqiAeiOMZw%3D%3D; Arrow Part Number: PCA9685PW,112; Arrow Price/Stock: https://www.arrow.com/en/products/pca9685pw112/nxp-semiconductors?region=nac
footprint SOP65P640X110-28N
pins: 1 A0, 2 A1, 3 A2, 4 A3, 5 A4, 6 LED0, 7 LED1, 8 LED2, 9 LED3, 10 LED4, 11 LED5, 12 LED6, 13 LED7, 14 VSS, 15 LED8, 16 LED9, 17 LED10, 18 LED11, 19 LED12, 20 LED13, 21 LED14, 22 LED15, 23 ~{OE}, 24 A5, 25 EXTCLK, 26 SCL, 27 SDA, 28 VDD

## PCB_USBNOBACK
designator ?
footprint PCB_USB_WBACK
pins: DM, DP, GND, V

## PCB_USBWITHBACK
designator ?
footprint PCB_USB_WBACK
pins: DM, DP, GND, V

## PJ-202A
designator J?, comment 2.0 mm Center Pin, 2.5 A, Right Angle, Through Hole, Kinked Pins, Dc Power Jack Connector  Supplier Part Number 1: CP-202A-ND
GateName_1: G$1; SymbolName_1: PJ-202A; MF: CUI Inc.; LibraryName: PJ-202A; DeviceSetName: PJ-202A; Package: CUI_PJ-202A; MP: PJ-202A; Availability: Unavailable; Package: None; Price: None; CUI_purchase_URL: https://www.cui.com/product/interconnect/dc-power-connectors/jacks/2.0-mm-center-pin/pj-202a?utm_source=snapeda.com&utm_medium=referral&utm_campaign=snapedaBOM; Supplier 1: Digi-Key
footprint CUI_PJ-202A (2.0 mm Center Pin, 2.5 A, Right Angle, Through Hole, Kinked Pins, Dc Power Jack Connector)
pins: 1, 2, 3

## PJ-202A_1
designator J?, comment 2.0 mm Center Pin, 2.5 A, Right Angle, Through Hole, Kinked Pins, Dc Power Jack Connector  Supplier Part Number 1: CP-202A-ND
GateName_1: G$1; SymbolName_1: PJ-202A; MF: CUI Inc.; LibraryName: PJ-202A; DeviceSetName: PJ-202A; Package: CUI_PJ-202A; MP: PJ-202A; Availability: Unavailable; Package: None; Price: None; CUI_purchase_URL: https://www.cui.com/product/interconnect/dc-power-connectors/jacks/2.0-mm-center-pin/pj-202a?utm_source=snapeda.com&utm_medium=referral&utm_campaign=snapedaBOM; Supplier 1: Digi-Key
footprint CUI_PJ-202A (2.0 mm Center Pin, 2.5 A, Right Angle, Through Hole, Kinked Pins, Dc Power Jack Connector)
pins: 1, 2, 3

## PJ-202A_2
designator J?, comment 2.0 mm Center Pin, 2.5 A, Right Angle, Through Hole, Kinked Pins, Dc Power Jack Connector  Supplier Part Number 1: CP-202A-ND
GateName_1: G$1; SymbolName_1: PJ-202A; MF: CUI Inc.; LibraryName: PJ-202A; DeviceSetName: PJ-202A; Package: CUI_PJ-202A; MP: PJ-202A; Availability: Unavailable; Package: None; Price: None; CUI_purchase_URL: https://www.cui.com/product/interconnect/dc-power-connectors/jacks/2.0-mm-center-pin/pj-202a?utm_source=snapeda.com&utm_medium=referral&utm_campaign=snapedaBOM; Supplier 1: Digi-Key
footprint CUI_PJ-202A (2.0 mm Center Pin, 2.5 A, Right Angle, Through Hole, Kinked Pins, Dc Power Jack Connector)
pins: 1, 2, 3

## PMIC-CJT1117-3.3(SOT223)
designator R3.3V?, comment 310030097  MPN: CJT1117-3.3
footprint SOT-223
pins: 1 GND, 2 OUT, 3 IN, 4 Vout (out)

## PMIC-CJT1117-3.3(SOT223)_1
designator R3.3V?, comment 310030097  MPN: CJT1117-3.3
footprint SOT-223
pins: 1 GND, 2 OUT, 3 IN, 4 Vout (out)

## PMIC-CJT1117-5.0(SOT223)
designator R5V?, comment 310030096  MPN: CJT1117-5.0
footprint SOT-223
pins: 1 GND, 2 OUT, 3 IN, 4 Vout (out)

## PMIC-CJT1117-5.0(SOT223)_1
designator R5V?, comment 310030096  MPN: CJT1117-5.0
footprint SOT-223
pins: 1 GND, 2 OUT, 3 IN, 4 Vout (out)

## Potentiometer
designator VR?, comment POT
Potentiometer
footprint Potentiometer (THT)
footprint potentiometer SMD (SMD)
pins: 1 R, 2 M, 3 L

## press button
designator SW?
Switch Push Button OFF (ON) SPST Round Button 0.05A 24VDC Momentary Contact PC Pins Thru-Hole; MF: TE Connectivity; MP: 3-1825910-1; SnapEDA_Link: https://www.snapeda.com/parts/3-1825910-1/TE+Connectivity+ALCOSWITCH+Switches/view-part/?ref=snap; Package: None; Value: *; Check_prices: https://www.snapeda.com/parts/3-1825910-1/TE+Connectivity+ALCOSWITCH+Switches/view-part/?ref=eda
footprint Press button
pins: 1, 2, 3, 4

## PRO-MINI
designator ?, comment Arduion Pro Mini Clone V1.0 www.betemcu.cu
footprint PRO-MINI
pins: A0, A1, A2, A3, A4, A5, A6, A7, D2, D3, D4, D5, D6, D7, D8, D9, D10, D11, D12, D13, DTR, GND, GND1 GND2, GND2 GND4, GND3, RAW (power), RST, RST1 RST2, RX1, RX1-1, TX0, TX0-1, VCC, VCC1 VCC2

## PRT-16279
designator J?
Connector; Manufacturer_Name: SparkFun; Manufacturer_Part_Number: PRT-16279; Datasheet Link: https://cdn.sparkfun.com/assets/8/d/8/4/7/DS-16279-Arduino_Nano_Stackable_Header_Kit.pdf; Height: 8.65mm; Mouser Part Number: 474-PRT-16279; Mouser Price/Stock: https://www.mouser.co.uk/ProductDetail/SparkFun/PRT-16279?qs=vmHwEFxEFR8I6W1vfufYPg%3D%3D; Arrow Part Number: PRT-16279; Arrow Price/Stock: https://www.arrow.com/en/products/prt-16279/sparkfun-electronics?region=nac
footprint PRT16279
pins: 1, 2, 3, 4, 5, 6, 7, 8, 9, 10, 11, 12, 13, 14, 15

## PTS647SK38SMTR2LFS
designator S?
Tactile Switch SPST-NO Top Actuated Surface Mount; MF: C&K; MP: PTS 647 SK38 SMTR2 LFS; SnapEDA_Link: https://www.snapeda.com/parts/PTS%20647%20SK38%20SMTR2%20LFS/C%2526K/view-part/?ref=snap; Package: None; Value: *; Check_prices: https://www.snapeda.com/parts/PTS%20647%20SK38%20SMTR2%20LFS/C%2526K/view-part/?ref=eda
footprint PTS647SK38SMTR2LFS (Tactile switch SMD 4.5x4.5x3.8)
pins: 1 NO_1 (io), 2 NO_2 (io), 3 COM_1 (in), 4 COM_2 (in)

## Push Button 7x7_1
designator *
footprint Push Button 7x7 (7x7 SELF-LOCK BUTTON - 2mm DIP)
pins: 1 C1, 2 COM, 3 C2, 4 C2, 5 COM, 6 C1

## RA-01H LoRa
designator *
footprint RA-01H LoRa
pins: 1 ANT (io), 2 GND (power), 3 3.3V (power), 4 RESET (in), 5 DIO0 (io), 6 DIO1 (io), 7 DIO2 (io), 8 DIO3 (io), 9 GND (power), 10 DIO4 (io), 11 DIO5 (io), 12 SCK (in), 13 MISO (out), 14 MOSI (in), 15 NSS (in), 16 GND (power)

## RELAY-HLS8L-DC5V-S-CHLS8L-DC5V-S-C
designator RE?, comment 315030000
footprint REY5-19.0X15.0X15.0MM
pins: 1 COM, 2 V+, 3 V-, 4 NO, 5 NC

## RELAY-HLS8L-DC5V-S-CHLS8L-DC5V-S-C_1
designator RE?, comment 315030000
footprint REY5-19.0X15.0X15.0MM
pins: 1 COM, 2 V+, 3 V-, 4 NO, 5 NC

## Res1
designator R??  value 500
Resistor; Published: 8-Jun-2000; LatestRevisionDate: 17-Jul-2002; LatestRevisionNote: Re-released for DXP Platform.; PackageReference: AXIAL-0.3; Publisher: Altium Limited; PackageDescription: Axial Device, Thru-Hole; 2 Leads; 0.3 in Pin Spacing
footprint AXIAL-0.3 (Axial Device, Thru-Hole; 2 Leads; 0.3 in Pin Spacing)
simulation model RESISTOR (Resistor)
pins: 1, 2

## RES_0402
designator R?, comment R0402
Resistor SMD 0402; Manufacturer: *; Manufacturer Part Number: *; Distributor Link: *
footprint RES_0402
pins: 1, 2

## RES_0603
designator R?, comment R0603
Resistor SMD 0603; Manufacturer: *; Manufacturer Part Number: *; Distributor Link: *
footprint RES_0603
pins: 1, 2

## RES_0805
designator R?, comment R0805
Resistor SMD 0805; Manufacturer: *; Manufacturer Part Number: *; Distributor Link: *
footprint RES_0805
pins: 1, 2

## RES_THT
designator R?
footprint Res 1/4w
pins: 1, 2

## RES_THT_1
designator R?
footprint Res 1/4w
pins: 1, 2

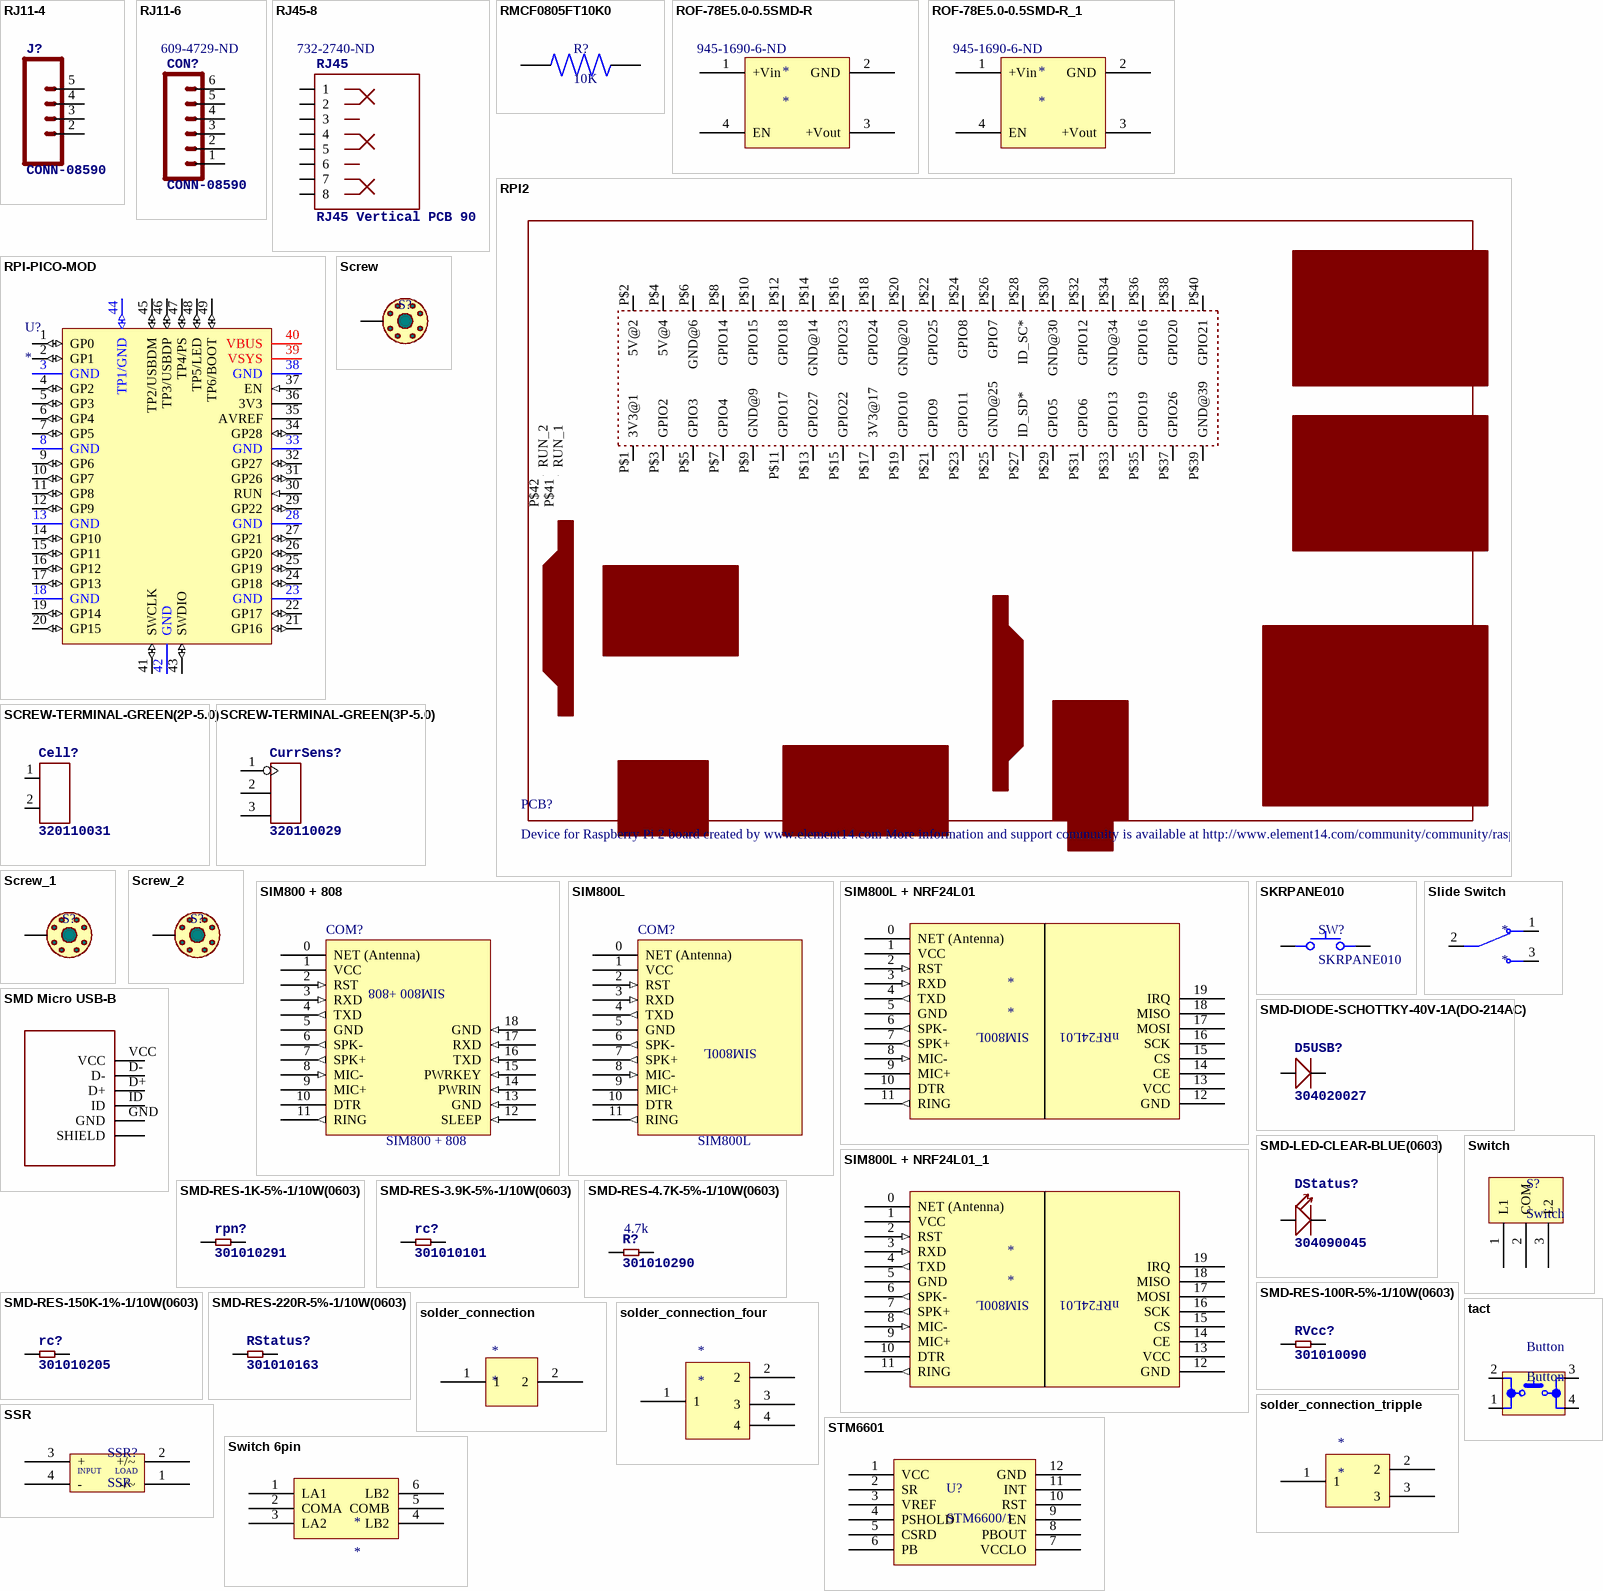
[diagram p6: symbols RJ11-4 to tact]

## RJ11-4
designator J?, comment CONN-08590
RJ11 4P4C; SF_ID: PRT-00132; PROD_ID: CONN-08590
footprint RJ11-6 - 4pin (54601-906WPLF CONN MOD JACK 6P6C R/A UNSHLD)
pins: 2, 3, 4, 5

## RJ11-6
designator CON?, comment CONN-08590  Supplier Part Number 1: 609-4729-ND
RJ11 6P6C; SF_ID: PRT-00132; PROD_ID: CONN-08590; Supplier 1: Digi-Key
footprint RJ11-6
pins: 1, 2, 3, 4, 5, 6

## RJ45-8
designator RJ45, comment RJ45 Vertical PCB 90  Supplier Part Number 1: 732-2740-ND
Wurth Electronics 615008138021; PROD_ID: 615008138021; Supplier 1: Digi-Key
footprint RJ45-8
pins: 1, 2, 3, 4, 5, 6, 7, 8

## RMCF0805FT10K0
designator R?, comment 10K
10k ohm 0805 smd resistor; MF: {'manufacturer': u'Stackpole Electronics Inc'}; MP: RMCF0805FT10K0; Package: None; Price: None; Value: *; Availability: Unavailable
footprint RESC2012X65N
pins: 1, 2

## ROF-78E5.0-0.5SMD-R
designator *  Supplier Part Number 1: 945-1690-6-ND
Manufacturer: Recom Power; Manufacturer Part Number: ROF-78E5.0-0.5SMD-R; Power (Watts) - Manufacture Series: 3W; Number of Outputs: 1; Voltage - Input (Min): 9V; Voltage - Input (Max): 36V; Voltage - Output 1: 5V; Current - Output (Max): 500mA; Efficiency: 87%; Supplier 1: Digi-Key; RoHS: RoHS Compliant; Category: Power Supplies - Board Mount; Stock 1: 3805; Pricing 1: 1=3.38, 5=3.338, 10=3.29, 25=3.196, 50=3.102, 100=3.008, 250=2.914 (USD); Packaging: Digi-Reel®; Type: Non-Isolated PoL Module; Voltage - Output 2: -; Voltage - Output 3: -; Voltage - Isolation: -; Applications: ITE (Commercial); Features: SCP; Mounting Type: Surface Mount; Package / Case: 4-SMD Module; Size / Dimension: 0.53" L x 0.49" W x 0.18" H (13.5mm x 12.5mm x 4.5mm); Operating Temperature: -40°C ~ 75°C; Power (Watts) - Max: 3W; ComponentLink1URL: http://www.recom-power.com/pdf/Innoline/ROF-78Exx-0.5.pdf; ComponentLink1Description: http://www.recom-power.com/pdf/Innoline/ROF-78Exx-0.5.pdf
footprint ROF-78E5.0-0.5SMD-R (SMD Switching Regulator)
pins: 1 +Vin (power), 2 GND (power), 3 +Vout (power), 4 EN (power)

## ROF-78E5.0-0.5SMD-R_1
designator *  Supplier Part Number 1: 945-1690-6-ND
Manufacturer: Recom Power; Manufacturer Part Number: ROF-78E5.0-0.5SMD-R; Power (Watts) - Manufacture Series: 3W; Number of Outputs: 1; Voltage - Input (Min): 9V; Voltage - Input (Max): 36V; Voltage - Output 1: 5V; Current - Output (Max): 500mA; Efficiency: 87%; Supplier 1: Digi-Key; RoHS: RoHS Compliant; Category: Power Supplies - Board Mount; Stock 1: 3805; Pricing 1: 1=3.38, 5=3.338, 10=3.29, 25=3.196, 50=3.102, 100=3.008, 250=2.914 (USD); Packaging: Digi-Reel®; Type: Non-Isolated PoL Module; Voltage - Output 2: -; Voltage - Output 3: -; Voltage - Isolation: -; Applications: ITE (Commercial); Features: SCP; Mounting Type: Surface Mount; Package / Case: 4-SMD Module; Size / Dimension: 0.53" L x 0.49" W x 0.18" H (13.5mm x 12.5mm x 4.5mm); Operating Temperature: -40°C ~ 75°C; Power (Watts) - Max: 3W; ComponentLink1URL: http://www.recom-power.com/pdf/Innoline/ROF-78Exx-0.5.pdf; ComponentLink1Description: http://www.recom-power.com/pdf/Innoline/ROF-78Exx-0.5.pdf
footprint ROF-78E5.0-0.5SMD-R (SMD Switching Regulator)
pins: 1 +Vin (power), 2 GND (power), 3 +Vout (power), 4 EN (power)

## RPI2
designator PCB?, comment Device for Raspberry Pi 2 board created by www.element14.com More information and support community is available at http://www.element14.com/community/community/raspberry-pi/raspberrypi2
footprint RPI2
pins: P$1 3V3@1, P$2 5V@2, P$3 GPIO2, P$4 5V@4, P$5 GPIO3, P$6 GND@6, P$7 GPIO4, P$8 GPIO14, P$9 GND@9, P$10 GPIO15, P$11 GPIO17, P$12 GPIO18, P$13 GPIO27, P$14 GND@14, P$15 GPIO22, P$16 GPIO23, P$17 3V3@17, P$18 GPIO24, P$19 GPIO10, P$20 GND@20, P$21 GPIO9, P$22 GPIO25, P$23 GPIO11, P$24 GPIO8, P$25 GND@25, P$26 GPIO7, P$27 ID_SD*, P$28 ID_SC*, P$29 GPIO5, P$30 GND@30, P$31 GPIO6, P$32 GPIO12, P$33 GPIO13, P$34 GND@34, P$35 GPIO19, P$36 GPIO16, P$37 GPIO26, P$38 GPIO20, P$39 GND@39, P$40 GPIO21, P$41 RUN_1, P$42 RUN_2

## RPI-PICO-MOD
designator U?
RASPBERRY PI PICO RP2040 BOARD; Manufacturer: Raspberry Pi Foundation; Manufacturer Part No: SC0915; Mounting Technology: SMT; Supplier: DigiKey; Supplier Part No: 2648-SC0915CT-ND; Supplier Link: https://www.digikey.com/en/products/detail/raspberry-pi/SC0915/13684020
footprint RPI-PICO-MOD (RASPBERRY PI PICO RP2040 BOARD)
pins: 1 GP0 (io), 2 GP1 (io), 3 GND (power), 4 GP2 (io), 5 GP3 (io), 6 GP4 (io), 7 GP5 (io), 8 GND (power), 9 GP6 (io), 10 GP7 (io), 11 GP8 (io), 12 GP9 (io), 13 GND (power), 14 GP10 (io), 15 GP11 (io), 16 GP12 (io), 17 GP13 (io), 18 GND (power), 19 GP14 (io), 20 GP15 (io), 21 GP16 (io), 22 GP17 (io), 23 GND (power), 24 GP18 (io), 25 GP19 (io), 26 GP20 (io), 27 GP21 (io), 28 GND (power), 29 GP22 (io), 30 RUN (in), 31 GP26 (io), 32 GP27 (io), 33 GND (power), 34 GP28 (io), 35 AVREF (power), 36 3V3 (power), 37 EN (in), 38 GND (power), 39 VSYS (power), 40 VBUS (power), 41 SWCLK (io), 42 GND (power), 43 SWDIO (io), 44 TP1/GND (io), 45 TP2/USBDM (io), 46 TP3/USBDP (io), 47 TP4/PS (io), 48 TP5/LED (io), 49 TP6/BOOT (io)

## Screw
designator S?  (value not drawn)  (net tie, no BOM)
3mm Screw; ASiD Part Number: Screw-AS
footprint SCREW-3MM
pins: 0

## SCREW-TERMINAL-GREEN(2P-5.0)
designator Cell?, comment 320110031
footprint H2-5.0-10.5X8.0MM
pins: 1, 2

## SCREW-TERMINAL-GREEN(3P-5.0)
designator CurrSens?, comment 320110029
footprint H3-5.0-15.5X8.0MM
pins: 1 P$1, 2 P$2, 3 P$3

## Screw_1
designator S?, comment Screw  (value not drawn)  (net tie, no BOM)
3mm Screw; ASiD Part Number: Screw-AS
footprint SCREW-3MM
pins: 0

## Screw_2
designator S?, comment Screw  (value not drawn)  (net tie, no BOM)
3mm Screw; ASiD Part Number: Screw-AS
footprint SCREW-3MM
pins: 0

## SIM800 + 808
designator COM?
footprint SIM800 + bk-808
pins: 0 NET (Antenna) (hiz), 1 VCC (power), 2 RST (in), 3 RXD (in), 4 TXD (out), 5 GND (hiz), 6 SPK- (out), 7 SPK+ (out), 8 MIC- (in), 9 MIC+ (hiz), 10 DTR (power), 11 RING (out), 12 SLEEP (in), 13 GND (in), 14 PWRIN (in), 15 PWRKEY (in), 16 TXD (in), 17 RXD (in), 18 GND (in)
text: SIM800 +808

## SIM800L
designator COM?
footprint SIM800L
pins: 0 NET (Antenna) (hiz), 1 VCC (power), 2 RST (in), 3 RXD (in), 4 TXD (out), 5 GND (hiz), 6 SPK- (out), 7 SPK+ (out), 8 MIC- (in), 9 MIC+ (hiz), 10 DTR (power), 11 RING (out)

## SIM800L + NRF24L01
designator *
footprint SIM800L+NRF24L01
pins: 0 NET (Antenna) (hiz), 1 VCC (power), 2 RST (in), 3 RXD (in), 4 TXD (out), 5 GND (hiz), 6 SPK- (out), 7 SPK+ (out), 8 MIC- (in), 9 MIC+ (hiz), 10 DTR (power), 11 RING (out), 12 GND (power), 13 VCC (power), 14 CE (power), 15 CS (power), 16 SCK (power), 17 MOSI (power), 18 MISO (power), 19 IRQ (power)
text: SIM800L; nRF24L01

## SIM800L + NRF24L01_1
designator *
footprint SIM800L+NRF24L01
pins: 0 NET (Antenna) (hiz), 1 VCC (power), 2 RST (in), 3 RXD (in), 4 TXD (out), 5 GND (hiz), 6 SPK- (out), 7 SPK+ (out), 8 MIC- (in), 9 MIC+ (hiz), 10 DTR (power), 11 RING (out), 12 GND (power), 13 VCC (power), 14 CE (power), 15 CS (power), 16 SCK (power), 17 MOSI (power), 18 MISO (power), 19 IRQ (power)
text: SIM800L; nRF24L01

## SKRPANE010
designator SW?
Tactile Switch SMD SPST; Manufacturer: Alps Alpine; Manufacturer Part Number: SKRPANE010
footprint SKRPANE010
pins: 12, 34

## Slide Switch
designator *
footprint Slide Switch
pins: 1 NC, 2 COM, 3 NO

## SMD Micro USB-B
designator USB*, comment 320010003  (value not drawn)
10118193-0001LF - 320010003; GateName_1: G$1; SymbolName_1: 10118193-0001LF; LibraryName: eagle_usb; DeviceSetName: 10118193-0001LF; Package: 10118193-0001LF
footprint 10118193-0001LF
pins: D+, D-, GND, ID, SHIELD$1 SHIELD$2 SHIELD$3 SHIELD$4 SHIELD, VCC

## SMD-DIODE-SCHOTTKY-40V-1A(DO-214AC)
designator D5USB?, comment 304020027
MPN: 1N5819
footprint DO-214AC
pins: 1 +, 2 -

## SMD-LED-CLEAR-BLUE(0603)
designator DStatus?, comment 304090045
MPN: 19-217-BHC-ZL1M2RY-3T
footprint LED-0603
pins: +, -

## SMD-RES-1K-5%-1/10W(0603)
designator rpn?, comment 301010291
1k; MPN: RC0603JR-071KL
footprint R0603
pins: 1, 2

## SMD-RES-3.9K-5%-1/10W(0603)
designator rc?, comment 301010101
MPN: RC0603JR-073K9L
footprint R0603
pins: 1, 2

## SMD-RES-4.7K-5%-1/10W(0603)
designator R?, comment 301010290
MPN: RC0603JR-074K7L
footprint R0603
pins: 1, 2
text: 4.7k

## SMD-RES-100R-5%-1/10W(0603)
designator RVcc?, comment 301010090
MPN: RC0603JR-07100RL
footprint R0603
pins: 1, 2

## SMD-RES-150K-1%-1/10W(0603)
designator rc?, comment 301010205
MPN: RC0603FR-07150KL
footprint R0603
pins: 1, 2

## SMD-RES-220R-5%-1/10W(0603)
designator RStatus?, comment 301010163
MPN: RC0603JR-07220RL
footprint R0603
pins: 1, 2

## solder_connection
designator *
footprint solder_connection
pins: 1, 2

## solder_connection_four
designator *
footprint solder_connection_four
pins: 1, 2, 3, 4

## solder_connection_tripple
designator *
footprint solder_connection_tripple
pins: 1, 2, 3

## SSR
designator SSR?
HHG1D-1
footprint SSR (HHG1D-1)
pins: 1 -/~, 2 +/~, 3 +, 4 -
text: INPUT; LOAD

## STM6601
designator U?, comment STM6600/1
Smart push-button on/off controller with Smart Reset™ and  power-on lockout
footprint TDFN12
pins: 1 VCC, 2 SR, 3 VREF, 4 PSHOLD, 5 CSRD, 6 PB, 7 VCCLO, 8 PBOUT, 9 EN, 10 RST, 11 INT, 12 GND

## Switch
designator S?
footprint SW-PCB (1P2T 90 Angle Horizontal Slide)
pins: 1 L1, 2 COM, 3 L2

## Switch 6pin
designator *
footprint SW-PCB 6PIN (2P2T 6PIN)
pins: 1 LA1, 2 COMA, 3 LA2, 4 LB2, 5 COMB, 6 LB2

## tact
designator Button, comment Button
SWITCH TACTILE SPST-NO 0.05A 24V; Manufacturer: TE Connectivity Alcoswitch; Manufacturer Part Number: 1825910-6; Actuator Material: PBT; Mechanical Life: 100000Cycles; Operating Force: 160gf; Throw Configuration: SPST; Illumination Type: Non-Illuminated,Illuminated; Switch Travel: 0.25mm; Switch Function: Off-Mom; Contact Current Rating: 50mA; Actuator Type: Standard; Contact Resistance: 100mR; Actuator Length: 0.055inch; RoHS: Yes; Category: Pushbutton Switches; Stock 1: 97530; Pricing 1: 1=0,10000, 10=0,10100, 25=0,09560, 100=0,08700, 250=0,08180, 500=0,07484, 1000=0,06265, 2500=0,06092, 5000=0,05743 (USD); Mount: Through Hole; Contact Material: Copper Alloy; Contact Plating: Silver; Min Operating Temperature: -35°C; Max Operating Temperature: 85°C; Termination: PC Pins; Package Quantity: 750; Packaging: Loose Piece; Orientation: Straight; Max Voltage Rating (DC): 24V; Electrical Life: 100000Cycles; Max Current Rating: 50mA; Type: Switch; Length: 5.99mm; REACH SVHC: Unknown; ELV: Compliant; Lead Free: Lead Free; ComponentLink1URL: https://datasheet.ciiva.com/30199/1825910-6rqpn1825910-6-30199520.pdf?src-supplier=Onlinecomponents.com; ComponentLink1Description: https://datasheet.ciiva.com/30199/1825910-6rqpn1825910-6-30199520.pdf?src-supplier=Onlinecomponents.com; ComponentLink2URL: https://datasheet.ciiva.com/15184/getdatasheetpartid-395915-15184509.pdf?src-supplier=Verical; ComponentLink2Description: https://datasheet.ciiva.com/15184/getdatasheetpartid-395915-15184509.pdf?src-supplier=Verical; Supplier 1: Digi-Key; Supplier Part Number 1: 450-1650-ND
footprint 1825910-6_BUTTON
pins: 1, 2, 3, 4

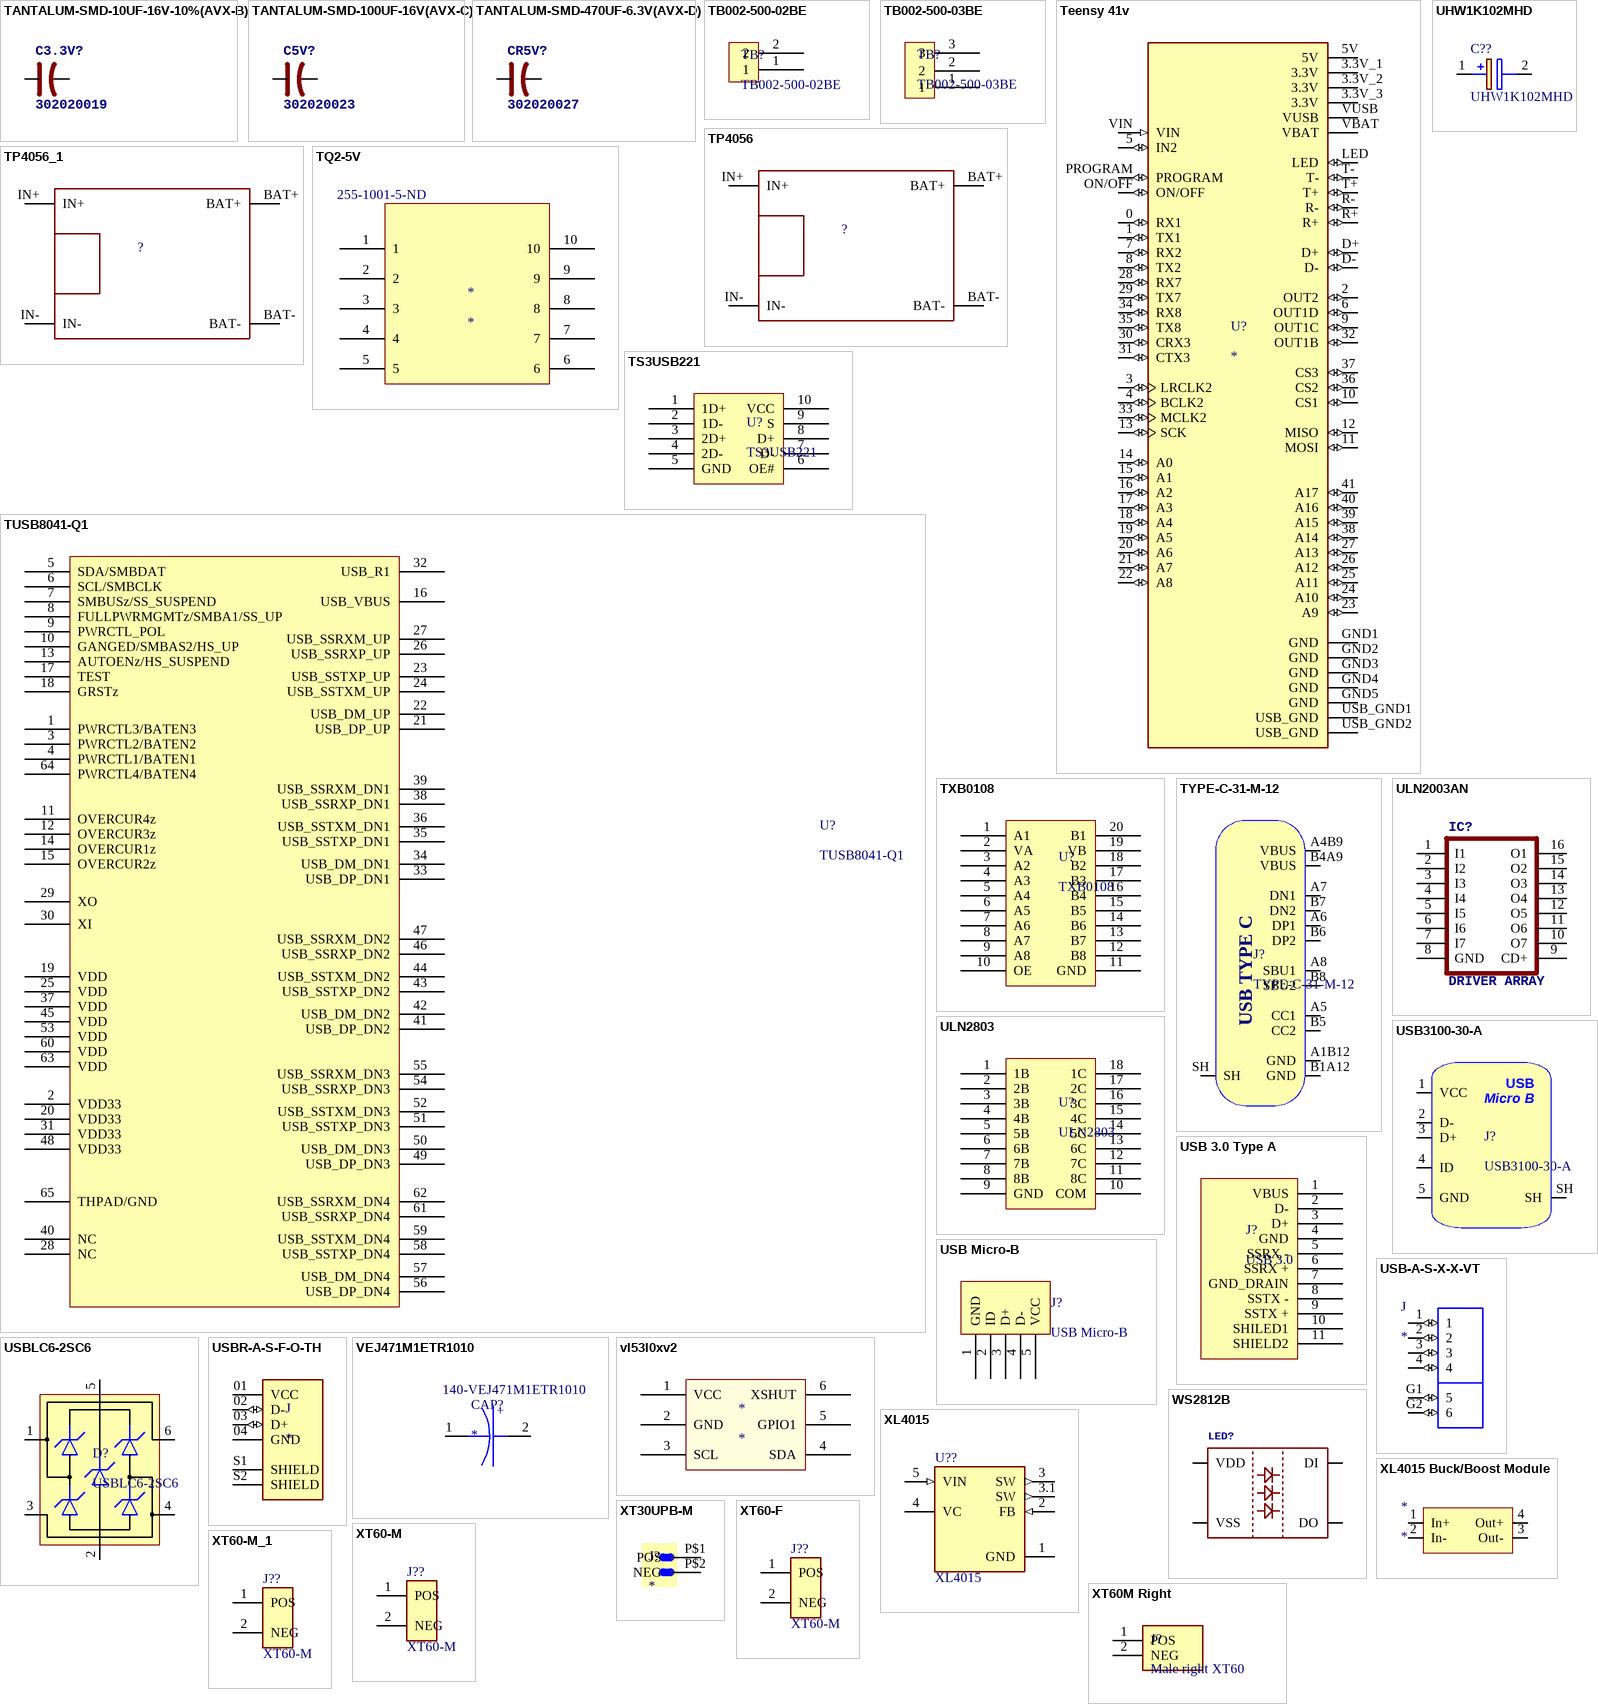
[diagram p7: symbols TANTALUM-SMD-10UF-16V-10%(AVX-B) to XT60M Right]

## TANTALUM-SMD-10UF-16V-10%(AVX-B)
designator C3.3V?, comment 302020019
MPN: TAJB106K016RNJ
footprint AVX-B
pins: +, -

## TANTALUM-SMD-100UF-16V(AVX-C)
designator C5V?, comment 302020023
MPN: TAJC107K016RNJ
footprint AVX-C
pins: +, -

## TANTALUM-SMD-470UF-6.3V(AVX-D)
designator CR5V?, comment 302020027
MPN: TAJD477*006#NJ
footprint AVX-D
pins: +, -

## TB002-500-02BE
designator TB?
Supplier 1: Mouser; Supplier Part Number 1: 490-TB002-500-02BE
footprint TB002-500-02BE
pins: 1, 2

## TB002-500-03BE
designator TB?
Supplier 1: Mouser; Supplier Part Number 1: 490-TB002-500-03BE
footprint TB002-500-03BE
pins: 1, 2, 3

## Teensy 41v
designator U?
RT1062 Teensy 4.1 series ARMÂ® CortexÂ®-M7 MPU Embedded Evaluation Board; MP: DEV-16771; MF: SparkFun Electronics; Check_prices: https://www.snapeda.com/parts/DEV-16771/SparkFun+Electronics/view-part/?ref=eda; Value: *; Availability: In Stock; Price: None; Package: None; SnapEDA_Link: https://www.snapeda.com/parts/DEV-16771/SparkFun+Electronics/view-part/?ref=snap; Purchase-URL: https://pricing.snapeda.com/search/part/DEV-16771/?ref=eda
footprint Teensy 41v
pins: 0 RX1 (io), 1 TX1 (io), 2 OUT2 (io), 3 LRCLK2 (io), 3.3V_1 3.3V (power), 3.3V_2 3.3V (power), 3.3V_3 3.3V (power), 4 BCLK2 (io), 5 IN2 (io), 5V (power), 6 OUT1D (io), 7 RX2 (io), 8 TX2 (io), 9 OUT1C (io), 10 CS1 (io), 11 MOSI (io), 12 MISO (io), 13 SCK (io), 14 A0 (io), 15 A1 (io), 16 A2 (io), 17 A3 (io), 18 A4 (io), 19 A5 (io), 20 A6 (io), 21 A7 (io), 22 A8 (io), 23 A9 (io), 24 A10 (io), 25 A11 (io), 26 A12 (io), 27 A13 (io), 28 RX7 (io), 29 TX7 (io), 30 CRX3 (io), 31 CTX3 (io), 32 OUT1B (io), 33 MCLK2 (io), 34 RX8 (io), 35 TX8 (io), 36 CS2 (io), 37 CS3 (io), 38 A14 (io), 39 A15 (io), 40 A16 (io), 41 A17 (io), D+ (io), D- (io), GND1 GND (power), GND2 GND (power), GND3 GND (power), GND4 GND (power), GND5 GND (power), LED (io), ON/OFF (io), PROGRAM (io), R+ (io), R- (io), T+ (io), T- (io), USB_GND1 USB_GND (power), USB_GND2 USB_GND (power), VBAT, VIN (in), VUSB

## TP4056
designator ?
footprint TP4056 Lipo Charger
pins: BAT+, BAT-, IN+, IN-

## TP4056_1
designator ?
footprint TP4056 Lipo Charger
pins: BAT+, BAT-, IN+, IN-

## TQ2-5V
designator *  Supplier Part Number 1: 255-1001-5-ND
Supplier 1: Digi-Key
pins: 1, 2, 3, 4, 5, 6, 7, 8, 9, 10

## TS3USB221
designator U?
USB Multiplex
footprint TS3USB221 (USB multiplex)
pins: 1 1D+, 2 1D-, 3 2D+, 4 2D-, 5 GND, 6 OE#, 7 D-, 8 D+, 9 S, 10 VCC